# Altium integrated library CDE_Library.IntLib: 6171 symbols (part 6 of 25)
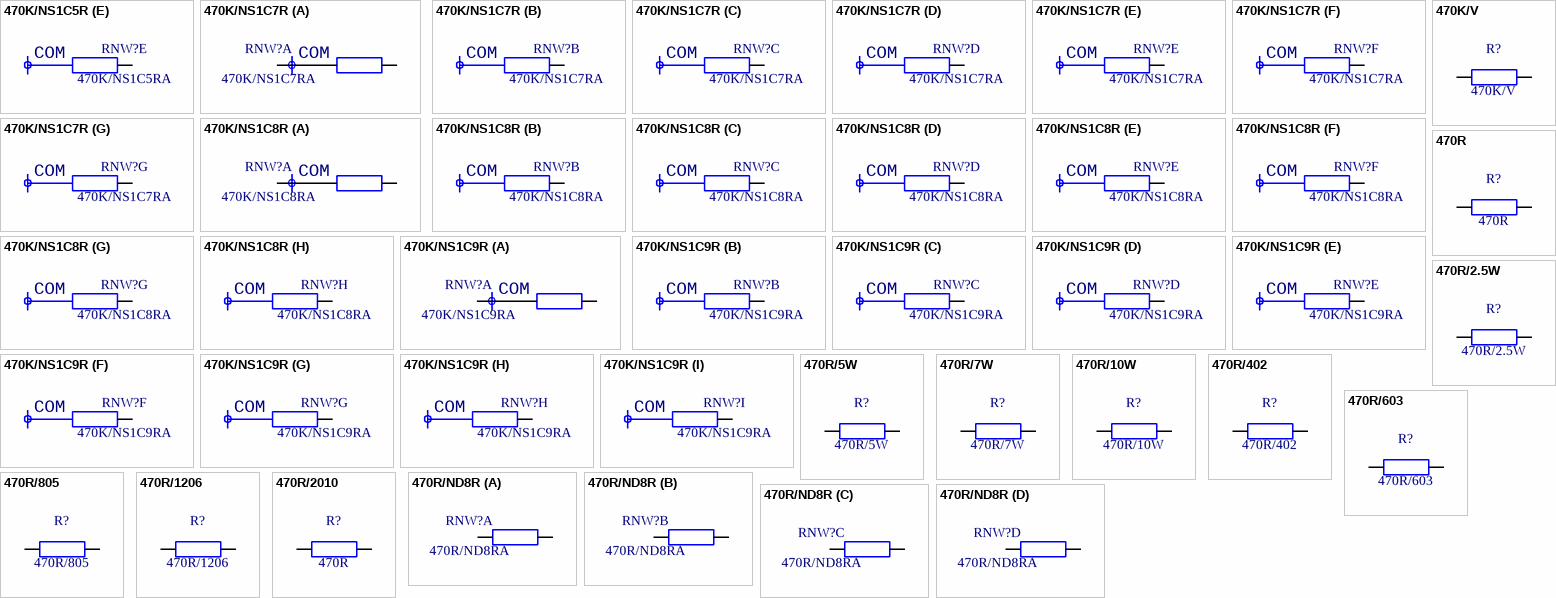
[diagram p262: symbols 470K/NS1C5R to 470R/ND8R]

## 470K/NS1C9R
designator RNW?, comment 470K/NS1C9RA
weerstandsnetwerk, SIL, 1 gemeens.pin, 9 weerst., 470K
footprint ws netwerk 9xR 1C (SIL)
part A pins: 1, 2
part B pins: 3
part C pins: 4
part D pins: 5
part E pins: 6
part F pins: 7
part G pins: 8
part H pins: 9
part I pins: 10
part A text: COM
part B text: COM
part C text: COM
part D text: COM
part E text: COM
part F text: COM
part G text: COM
part H text: COM
part I text: COM

## 470K/V
designator R?
weerstand 470K 0.6W, vertikaal
footprint ws 0.6W V
pins: 1, 2

## 470R
designator R?
weerstand 470R 0.6W
footprint ws 0.6W H
pins: 1, 2

## 470R/2.5W
designator R?
weerstand 470R 2.5W
footprint ws 2.5W H
pins: 1, 2

## 470R/5W
designator R?
weerstand 470R 5W
footprint ws 5W H
pins: 1, 2

## 470R/7W
designator R?
weerstand 470R 7W
footprint ws 7W H
pins: 1, 2

## 470R/10W
designator R?
weerstand 470R 10W
footprint ws 10W H
pins: 1, 2

## 470R/402
designator R?
weerstand SMD402, 470R
footprint smd C0402_0.35
pins: 1, 2

## 470R/603
designator R?
weerstand SMD603, 470R
footprint smd C0603_0.45
pins: 1, 2

## 470R/805
designator R?
weerstand SMD805, 470R
footprint smd C0805_0.50
pins: 1, 2

## 470R/1206
designator R?
weerstand SMD1206, 470R
footprint smd C1206_0.55
pins: 1, 2

## 470R/2010
designator R?, comment 470R
weerstand 470R 0.6W
footprint smd 2010 (5025) (Chip Resistor; Body 5.0 x 2.5 mm (LxW typ))
pins: 1, 2

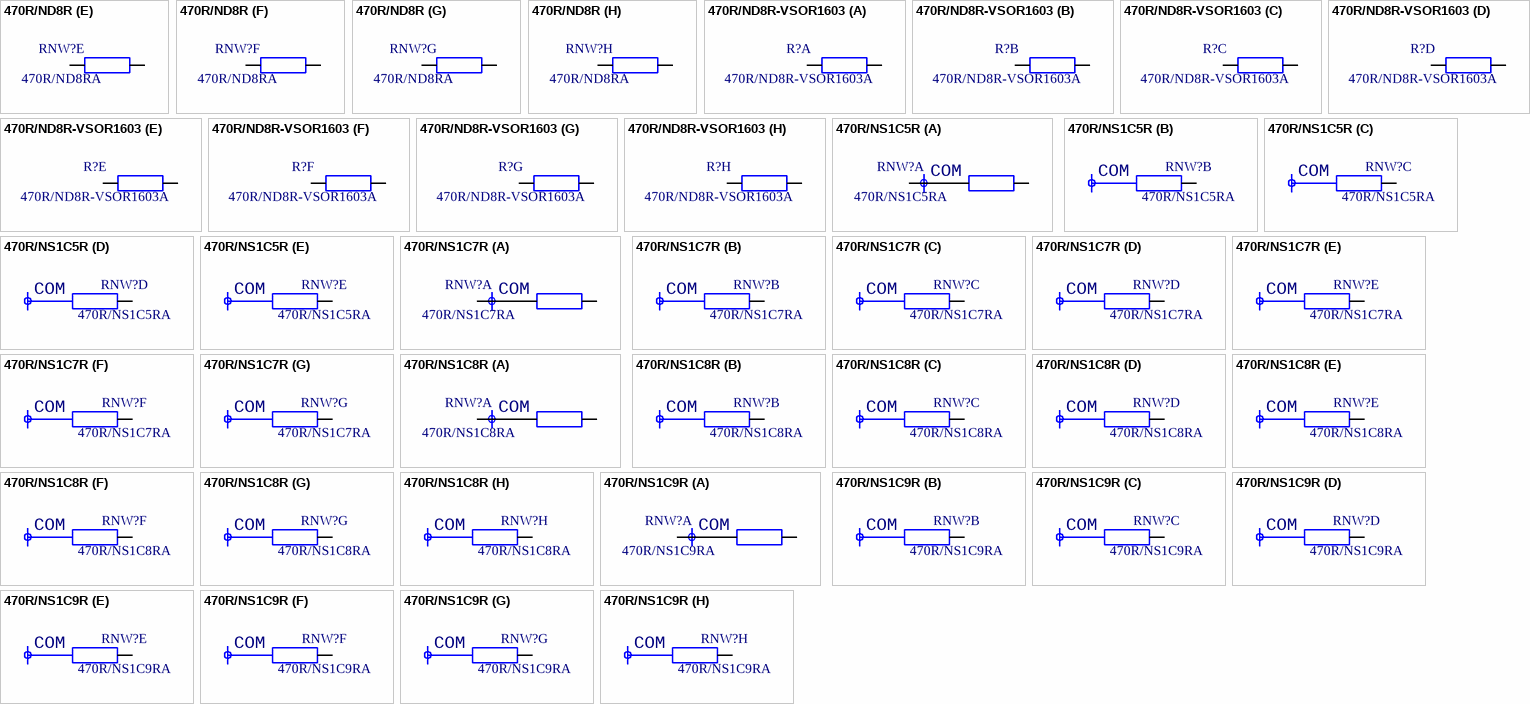
[diagram p89: symbols 470R/ND8R to 470R/NS1C9R]

## 470R/ND8R
designator RNW?, comment 470R/ND8RA
weerstandsnetwerk, DIL, 8 x 470R
footprint icv DIP16-300
part A pins: 1, 16
part B pins: 2, 15
part C pins: 3, 14
part D pins: 4, 13
part E pins: 5, 12
part F pins: 6, 11
part G pins: 7, 10
part H pins: 8, 9

## 470R/ND8R-VSOR1603
designator R?, comment 470R/ND8R-VSOR1603A
weerstandsnetwerk, DIL, smd, Vishay VSOR1603, 8 x 470R
footprint smd SOICN/16
part A pins: 1, 16
part B pins: 2, 15
part C pins: 3, 14
part D pins: 4, 13
part E pins: 5, 12
part F pins: 6, 11
part G pins: 7, 10
part H pins: 8, 9

## 470R/NS1C5R
designator RNW?, comment 470R/NS1C5RA
weerstandsnetwerk, SIL, 1 gemeens.pin, 5 weerst., 470R
footprint ws netwerk 5xR 1C (SIL)
part A pins: 1, 2
part B pins: 3
part C pins: 4
part D pins: 5
part E pins: 6
part A text: COM
part B text: COM
part C text: COM
part D text: COM
part E text: COM

## 470R/NS1C7R
designator RNW?, comment 470R/NS1C7RA
weerstandsnetwerk, SIL, 1 gemeens.pin, 7 weerst., 470R
footprint ws netwerk 7xR 1C (SIL)
part A pins: 1, 2
part B pins: 3
part C pins: 4
part D pins: 5
part E pins: 6
part F pins: 7
part G pins: 8
part A text: COM
part B text: COM
part C text: COM
part D text: COM
part E text: COM
part F text: COM
part G text: COM

## 470R/NS1C8R
designator RNW?, comment 470R/NS1C8RA
weerstandsnetwerk, SIL, 1 gemeens.pin, 8 weerst., 470R
footprint ws netwerk 8xR 1C (SIL)
part A pins: 1, 2
part B pins: 3
part C pins: 4
part D pins: 5
part E pins: 6
part F pins: 7
part G pins: 8
part H pins: 9
part A text: COM
part B text: COM
part C text: COM
part D text: COM
part E text: COM
part F text: COM
part G text: COM
part H text: COM

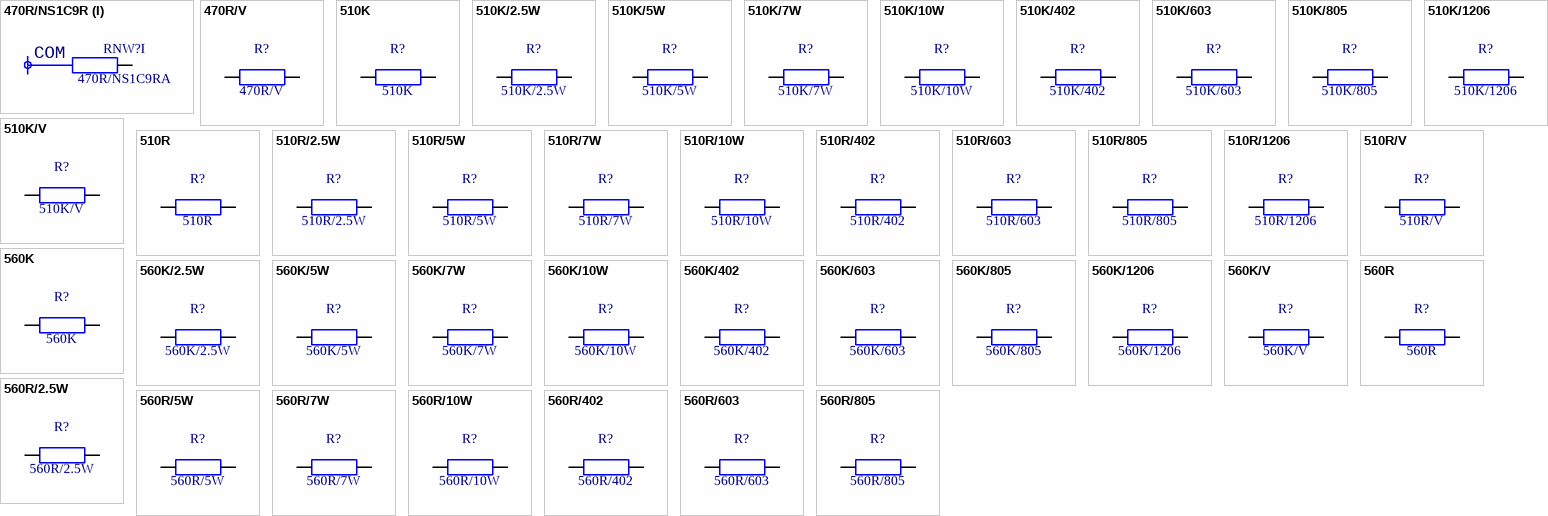
[diagram p90: symbols 470R/NS1C9R to 560R/805]

## 470R/NS1C9R
designator RNW?, comment 470R/NS1C9RA
weerstandsnetwerk, SIL, 1 gemeens.pin, 9 weerst., 470R
footprint ws netwerk 9xR 1C (SIL)
part A pins: 1, 2
part B pins: 3
part C pins: 4
part D pins: 5
part E pins: 6
part F pins: 7
part G pins: 8
part H pins: 9
part I pins: 10
part A text: COM
part B text: COM
part C text: COM
part D text: COM
part E text: COM
part F text: COM
part G text: COM
part H text: COM
part I text: COM

## 470R/V
designator R?
weerstand 470R 0.6W, vertikaal
footprint ws 0.6W V
pins: 1, 2

## 510K
designator R?
weerstand 510K 0.6W
footprint ws 0.6W H
pins: 1, 2

## 510K/2.5W
designator R?
weerstand 510K 2.5W
footprint ws 2.5W H
pins: 1, 2

## 510K/5W
designator R?
weerstand 510K 5W
footprint ws 5W H
pins: 1, 2

## 510K/7W
designator R?
weerstand 510K 7W
footprint ws 7W H
pins: 1, 2

## 510K/10W
designator R?
weerstand 510K 10W
footprint ws 10W H
pins: 1, 2

## 510K/402
designator R?
weerstand SMD402, 510K
footprint smd C0402_0.35
pins: 1, 2

## 510K/603
designator R?
weerstand SMD603, 510K
footprint smd C0603_0.45
pins: 1, 2

## 510K/805
designator R?
weerstand SMD805, 510K
footprint smd C0805_0.50
pins: 1, 2

## 510K/1206
designator R?
weerstand SMD1206, 510K
footprint smd C1206_0.55
pins: 1, 2

## 510K/V
designator R?
weerstand 510K 0.6W, vertikaal
footprint ws 0.6W V
pins: 1, 2

## 510R
designator R?
weerstand 510R 0.6W
footprint ws 0.6W H
pins: 1, 2

## 510R/2.5W
designator R?
weerstand 510R 2.5W
footprint ws 2.5W H
pins: 1, 2

## 510R/5W
designator R?
weerstand 510R 5W
footprint ws 5W H
pins: 1, 2

## 510R/7W
designator R?
weerstand 510R 7W
footprint ws 7W H
pins: 1, 2

## 510R/10W
designator R?
weerstand 510R 10W
footprint ws 10W H
pins: 1, 2

## 510R/402
designator R?
weerstand SMD402, 510R
footprint smd C0402_0.35
pins: 1, 2

## 510R/603
designator R?
weerstand SMD603, 510R
footprint smd C0603_0.45
pins: 1, 2

## 510R/805
designator R?
weerstand SMD805, 510R
footprint smd C0805_0.50
pins: 1, 2

## 510R/1206
designator R?
weerstand SMD1206, 510R
footprint smd C1206_0.55
pins: 1, 2

## 510R/V
designator R?
weerstand 510R 0.6W, vertikaal
footprint ws 0.6W V
pins: 1, 2

## 560K
designator R?
weerstand 560K 0.6W
footprint ws 0.6W H
pins: 1, 2

## 560K/2.5W
designator R?
weerstand 560K 2.5W
footprint ws 2.5W H
pins: 1, 2

## 560K/5W
designator R?
weerstand 560K 5W
footprint ws 5W H
pins: 1, 2

## 560K/7W
designator R?
weerstand 560K 7W
footprint ws 7W H
pins: 1, 2

## 560K/10W
designator R?
weerstand 560K 10W
footprint ws 10W H
pins: 1, 2

## 560K/402
designator R?
weerstand SMD402, 560K
footprint smd C0402_0.35
pins: 1, 2

## 560K/603
designator R?
weerstand SMD603, 560K
footprint smd C0603_0.45
pins: 1, 2

## 560K/805
designator R?
weerstand SMD805, 560K
footprint smd C0805_0.50
pins: 1, 2

## 560K/1206
designator R?
weerstand SMD1206, 560K
footprint smd C1206_0.55
pins: 1, 2

## 560K/V
designator R?
weerstand 560K 0.6W, vertikaal
footprint ws 0.6W V
pins: 1, 2

## 560R
designator R?
weerstand 560R 0.6W
footprint ws 0.6W H
pins: 1, 2

## 560R/2.5W
designator R?
weerstand 560R 2.5W
footprint ws 2.5W H
pins: 1, 2

## 560R/5W
designator R?
weerstand 560R 5W
footprint ws 5W H
pins: 1, 2

## 560R/7W
designator R?
weerstand 560R 7W
footprint ws 7W H
pins: 1, 2

## 560R/10W
designator R?
weerstand 560R 10W
footprint ws 10W H
pins: 1, 2

## 560R/402
designator R?
weerstand SMD402, 560R
footprint smd C0402_0.35
pins: 1, 2

## 560R/603
designator R?
weerstand SMD603, 560R
footprint smd C0603_0.45
pins: 1, 2

## 560R/805
designator R?
weerstand SMD805, 560R
footprint smd C0805_0.50
pins: 1, 2

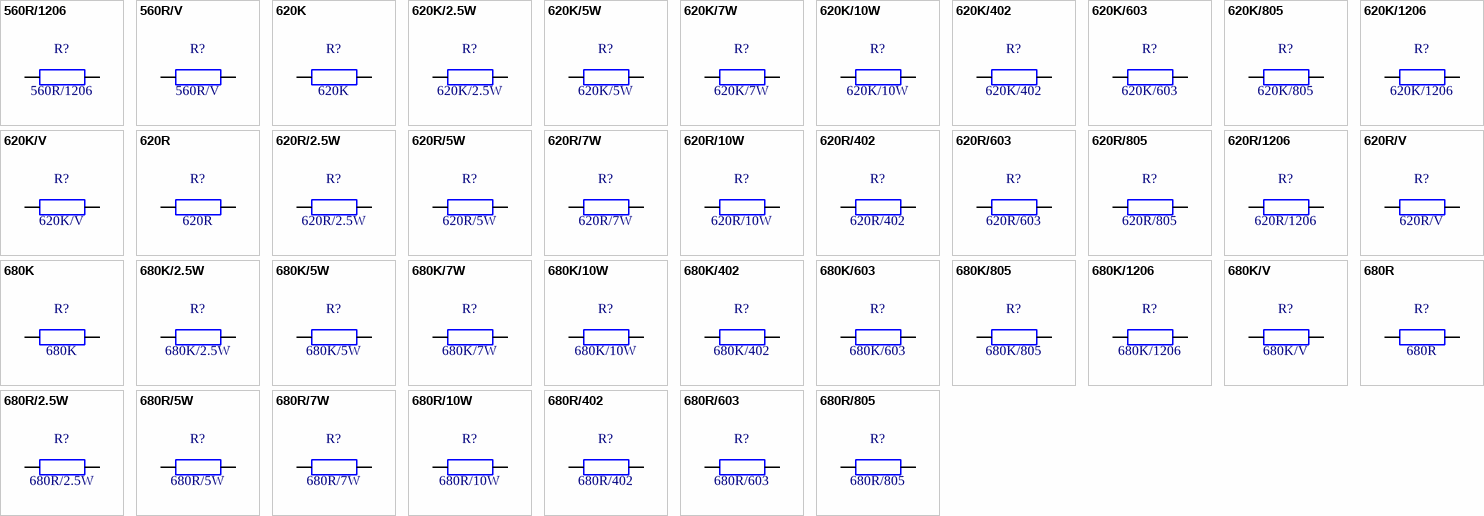
[diagram p91: symbols 560R/1206 to 680R/805]

## 560R/1206
designator R?
weerstand SMD1206, 560R
footprint smd C1206_0.55
pins: 1, 2

## 560R/V
designator R?
weerstand 560R 0.6W, vertikaal
footprint ws 0.6W V
pins: 1, 2

## 620K
designator R?
weerstand 620K 0.6W
footprint ws 0.6W H
pins: 1, 2

## 620K/2.5W
designator R?
weerstand 620K 2.5W
footprint ws 2.5W H
pins: 1, 2

## 620K/5W
designator R?
weerstand 620K 5W
footprint ws 5W H
pins: 1, 2

## 620K/7W
designator R?
weerstand 620K 7W
footprint ws 7W H
pins: 1, 2

## 620K/10W
designator R?
weerstand 620K 10W
footprint ws 10W H
pins: 1, 2

## 620K/402
designator R?
weerstand SMD402, 620K
footprint smd C0402_0.35
pins: 1, 2

## 620K/603
designator R?
weerstand SMD603, 620K
footprint smd C0603_0.45
pins: 1, 2

## 620K/805
designator R?
weerstand SMD805, 620K
footprint smd C0805_0.50
pins: 1, 2

## 620K/1206
designator R?
weerstand SMD1206, 620K
footprint smd C1206_0.55
pins: 1, 2

## 620K/V
designator R?
weerstand 620K 0.6W, vertikaal
footprint ws 0.6W V
pins: 1, 2

## 620R
designator R?
weerstand 620R 0.6W
footprint ws 0.6W H
pins: 1, 2

## 620R/2.5W
designator R?
weerstand 620R 2.5W
footprint ws 2.5W H
pins: 1, 2

## 620R/5W
designator R?
weerstand 620R 5W
footprint ws 5W H
pins: 1, 2

## 620R/7W
designator R?
weerstand 620R 7W
footprint ws 7W H
pins: 1, 2

## 620R/10W
designator R?
weerstand 620R 10W
footprint ws 10W H
pins: 1, 2

## 620R/402
designator R?
weerstand SMD402, 620R
footprint smd C0402_0.35
pins: 1, 2

## 620R/603
designator R?
weerstand SMD603, 620R
footprint smd C0603_0.45
pins: 1, 2

## 620R/805
designator R?
weerstand SMD805, 620R
footprint smd C0805_0.50
pins: 1, 2

## 620R/1206
designator R?
weerstand SMD1206, 620R
footprint smd C1206_0.55
pins: 1, 2

## 620R/V
designator R?
weerstand 620R 0.6W, vertikaal
footprint ws 0.6W V
pins: 1, 2

## 680K
designator R?
weerstand 680K 0.6W
footprint ws 0.6W H
pins: 1, 2

## 680K/2.5W
designator R?
weerstand 680K 2.5W
footprint ws 2.5W H
pins: 1, 2

## 680K/5W
designator R?
weerstand 680K 5W
footprint ws 5W H
pins: 1, 2

## 680K/7W
designator R?
weerstand 680K 7W
footprint ws 7W H
pins: 1, 2

## 680K/10W
designator R?
weerstand 680K 10W
footprint ws 10W H
pins: 1, 2

## 680K/402
designator R?
weerstand SMD402, 680K
footprint smd C0402_0.35
pins: 1, 2

## 680K/603
designator R?
weerstand SMD603, 680K
footprint smd C0603_0.45
pins: 1, 2

## 680K/805
designator R?
weerstand SMD805, 680K
footprint smd C0805_0.50
pins: 1, 2

## 680K/1206
designator R?
weerstand SMD1206, 680K
footprint smd C1206_0.55
pins: 1, 2

## 680K/V
designator R?
weerstand 680K 0.6W, vertikaal
footprint ws 0.6W V
pins: 1, 2

## 680R
designator R?
weerstand 680R 0.6W
footprint ws 0.6W H
pins: 1, 2

## 680R/2.5W
designator R?
weerstand 680R 2.5W
footprint ws 2.5W H
pins: 1, 2

## 680R/5W
designator R?
weerstand 680R 5W
footprint ws 5W H
pins: 1, 2

## 680R/7W
designator R?
weerstand 680R 7W
footprint ws 7W H
pins: 1, 2

## 680R/10W
designator R?
weerstand 680R 10W
footprint ws 10W H
pins: 1, 2

## 680R/402
designator R?
weerstand SMD402, 680R
footprint smd C0402_0.35
pins: 1, 2

## 680R/603
designator R?
weerstand SMD603, 680R
footprint smd C0603_0.45
pins: 1, 2

## 680R/805
designator R?
weerstand SMD805, 680R
footprint smd C0805_0.50
pins: 1, 2

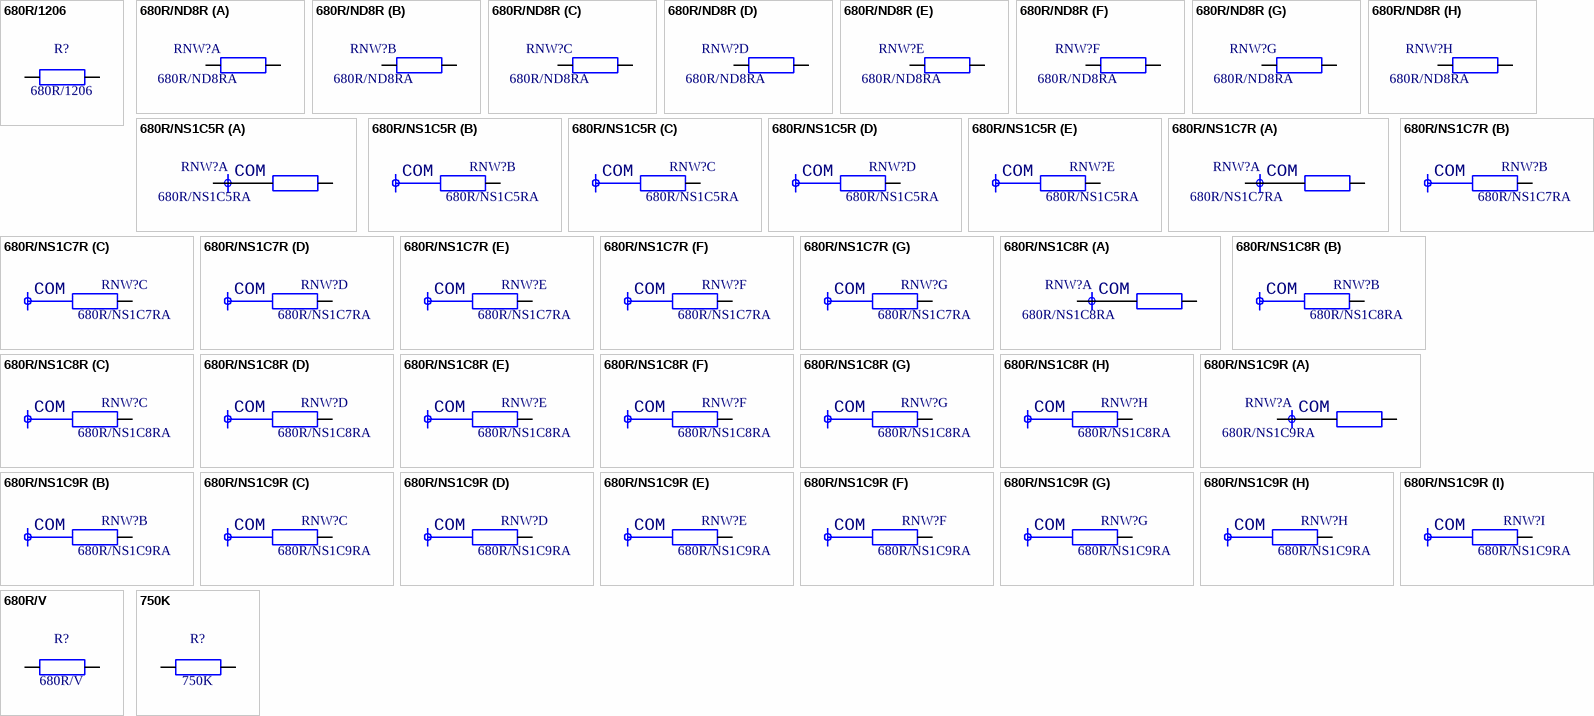
[diagram p92: symbols 680R/1206 to 750K]

## 680R/1206
designator R?
weerstand SMD1206, 680R
footprint smd C1206_0.55
pins: 1, 2

## 680R/ND8R
designator RNW?, comment 680R/ND8RA
weerstandsnetwerk, DIL, 8 x 680R
footprint icv DIP16-300
part A pins: 1, 16
part B pins: 2, 15
part C pins: 3, 14
part D pins: 4, 13
part E pins: 5, 12
part F pins: 6, 11
part G pins: 7, 10
part H pins: 8, 9

## 680R/NS1C5R
designator RNW?, comment 680R/NS1C5RA
weerstandsnetwerk, SIL, 1 gemeens.pin, 5 weerst., 680R
footprint ws netwerk 5xR 1C (SIL)
part A pins: 1, 2
part B pins: 3
part C pins: 4
part D pins: 5
part E pins: 6
part A text: COM
part B text: COM
part C text: COM
part D text: COM
part E text: COM

## 680R/NS1C7R
designator RNW?, comment 680R/NS1C7RA
weerstandsnetwerk, SIL, 1 gemeens.pin, 7 weerst., 680R
footprint ws netwerk 7xR 1C (SIL)
part A pins: 1, 2
part B pins: 3
part C pins: 4
part D pins: 5
part E pins: 6
part F pins: 7
part G pins: 8
part A text: COM
part B text: COM
part C text: COM
part D text: COM
part E text: COM
part F text: COM
part G text: COM

## 680R/NS1C8R
designator RNW?, comment 680R/NS1C8RA
weerstandsnetwerk, SIL, 1 gemeens.pin, 8 weerst., 680R
footprint ws netwerk 8xR 1C (SIL)
part A pins: 1, 2
part B pins: 3
part C pins: 4
part D pins: 5
part E pins: 6
part F pins: 7
part G pins: 8
part H pins: 9
part A text: COM
part B text: COM
part C text: COM
part D text: COM
part E text: COM
part F text: COM
part G text: COM
part H text: COM

## 680R/NS1C9R
designator RNW?, comment 680R/NS1C9RA
weerstandsnetwerk, SIL, 1 gemeens.pin, 9 weerst., 680R
footprint ws netwerk 9xR 1C (SIL)
part A pins: 1, 2
part B pins: 3
part C pins: 4
part D pins: 5
part E pins: 6
part F pins: 7
part G pins: 8
part H pins: 9
part I pins: 10
part A text: COM
part B text: COM
part C text: COM
part D text: COM
part E text: COM
part F text: COM
part G text: COM
part H text: COM
part I text: COM

## 680R/V
designator R?
weerstand 680R 0.6W, vertikaal
footprint ws 0.6W V
pins: 1, 2

## 750K
designator R?
weerstand 750K 0.6W
footprint ws 0.6W H
pins: 1, 2

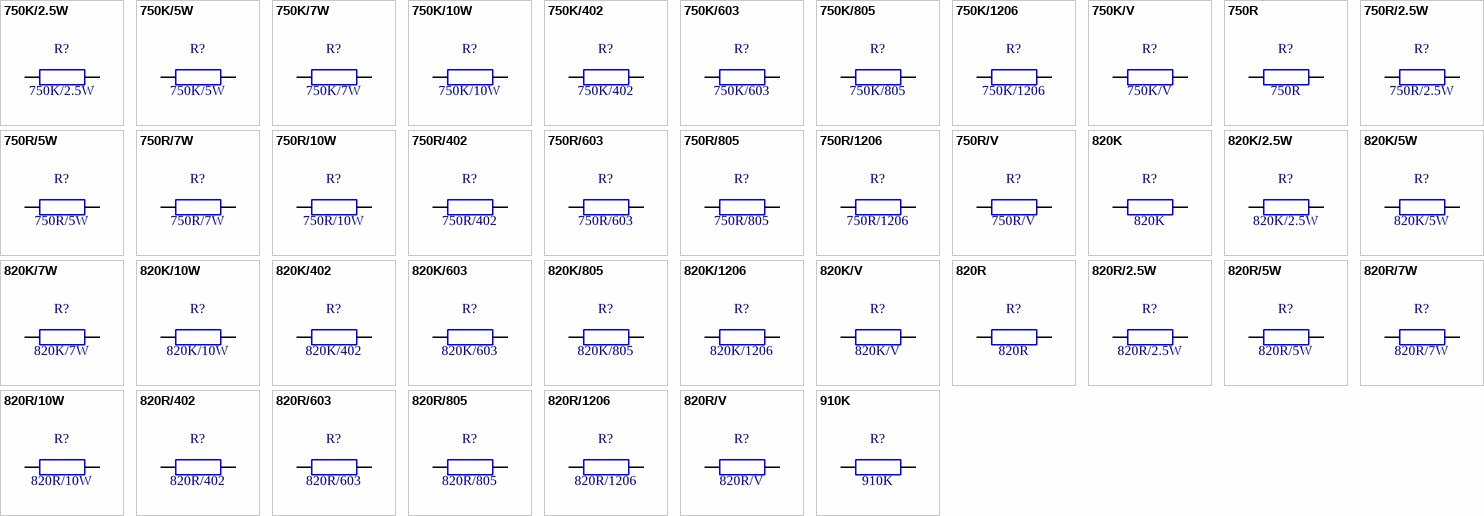
[diagram p93: symbols 750K/2.5W to 910K]

## 750K/2.5W
designator R?
weerstand 750K 2.5W
footprint ws 2.5W H
pins: 1, 2

## 750K/5W
designator R?
weerstand 750K 5W
footprint ws 5W H
pins: 1, 2

## 750K/7W
designator R?
weerstand 750K 7W
footprint ws 7W H
pins: 1, 2

## 750K/10W
designator R?
weerstand 750K 10W
footprint ws 10W H
pins: 1, 2

## 750K/402
designator R?
weerstand SMD402, 750K
footprint smd C0402_0.35
pins: 1, 2

## 750K/603
designator R?
weerstand SMD603, 750K
footprint smd C0603_0.45
pins: 1, 2

## 750K/805
designator R?
weerstand SMD805, 750K
footprint smd C0805_0.50
pins: 1, 2

## 750K/1206
designator R?
weerstand SMD1206, 750K
footprint smd C1206_0.55
pins: 1, 2

## 750K/V
designator R?
weerstand 750K 0.6W, vertikaal
footprint ws 0.6W V
pins: 1, 2

## 750R
designator R?
weerstand 750R 0.6W
footprint ws 0.6W H
pins: 1, 2

## 750R/2.5W
designator R?
weerstand 750R 2.5W
footprint ws 2.5W H
pins: 1, 2

## 750R/5W
designator R?
weerstand 750R 5W
footprint ws 5W H
pins: 1, 2

## 750R/7W
designator R?
weerstand 750R 7W
footprint ws 7W H
pins: 1, 2

## 750R/10W
designator R?
weerstand 750R 10W
footprint ws 10W H
pins: 1, 2

## 750R/402
designator R?
weerstand SMD402, 750R
footprint smd C0402_0.35
pins: 1, 2

## 750R/603
designator R?
weerstand SMD603, 750R
footprint smd C0603_0.45
pins: 1, 2

## 750R/805
designator R?
weerstand SMD805, 750R
footprint smd C0805_0.50
pins: 1, 2

## 750R/1206
designator R?
weerstand SMD1206, 750R
footprint smd C1206_0.55
pins: 1, 2

## 750R/V
designator R?
weerstand 750R 0.6W, vertikaal
footprint ws 0.6W V
pins: 1, 2

## 820K
designator R?
weerstand 820K 0.6W
footprint ws 0.6W H
pins: 1, 2

## 820K/2.5W
designator R?
weerstand 820K 2.5W
footprint ws 2.5W H
pins: 1, 2

## 820K/5W
designator R?
weerstand 820K 5W
footprint ws 5W H
pins: 1, 2

## 820K/7W
designator R?
weerstand 820K 7W
footprint ws 7W H
pins: 1, 2

## 820K/10W
designator R?
weerstand 820K 10W
footprint ws 10W H
pins: 1, 2

## 820K/402
designator R?
weerstand SMD402, 820K
footprint smd C0402_0.35
pins: 1, 2

## 820K/603
designator R?
weerstand SMD603, 820K
footprint smd C0603_0.45
pins: 1, 2

## 820K/805
designator R?
weerstand SMD805, 820K
footprint smd C0805_0.50
pins: 1, 2

## 820K/1206
designator R?
weerstand SMD1206, 820K
footprint smd C1206_0.55
pins: 1, 2

## 820K/V
designator R?
weerstand 820K 0.6W, vertikaal
footprint ws 0.6W V
pins: 1, 2

## 820R
designator R?
weerstand 820R 0.6W
footprint ws 0.6W H
pins: 1, 2

## 820R/2.5W
designator R?
weerstand 820R 2.5W
footprint ws 2.5W H
pins: 1, 2

## 820R/5W
designator R?
weerstand 820R 5W
footprint ws 5W H
pins: 1, 2

## 820R/7W
designator R?
weerstand 820R 7W
footprint ws 7W H
pins: 1, 2

## 820R/10W
designator R?
weerstand 820R 10W
footprint ws 10W H
pins: 1, 2

## 820R/402
designator R?
weerstand SMD402, 820R
footprint smd C0402_0.35
pins: 1, 2

## 820R/603
designator R?
weerstand SMD603, 820R
footprint smd C0603_0.45
pins: 1, 2

## 820R/805
designator R?
weerstand SMD805, 820R
footprint smd C0805_0.50
pins: 1, 2

## 820R/1206
designator R?
weerstand SMD1206, 820R
footprint smd C1206_0.55
pins: 1, 2

## 820R/V
designator R?
weerstand 820R 0.6W, vertikaal
footprint ws 0.6W V
pins: 1, 2

## 910K
designator R?
weerstand 910K 0.6W
footprint ws 0.6W H
pins: 1, 2

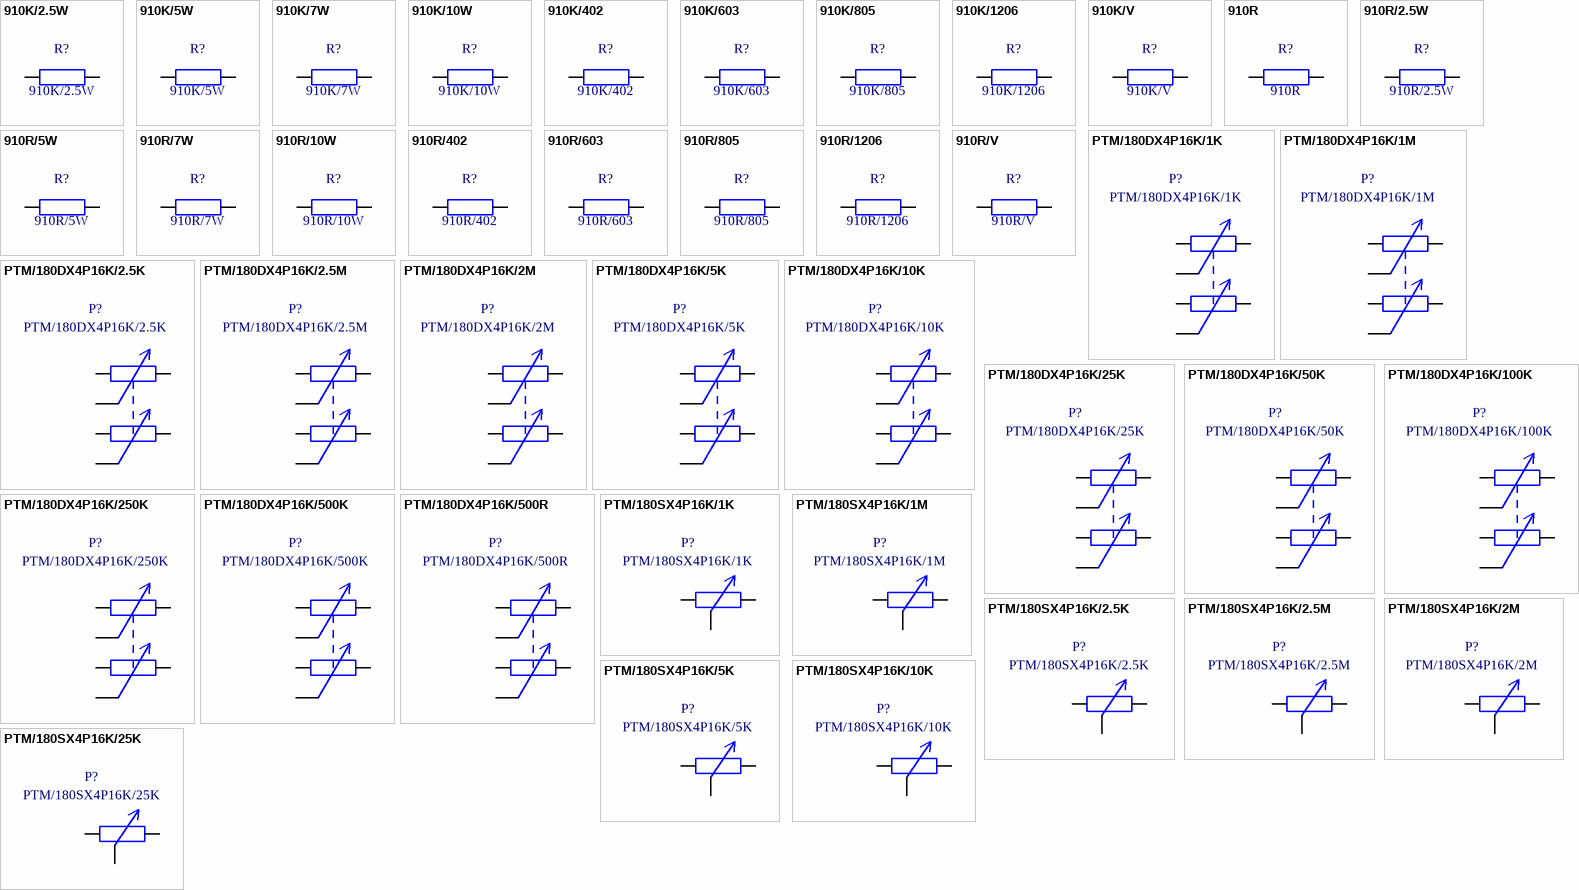
[diagram p94: symbols 910K/2.5W to PTM/180SX4P16K/25K]

## 910K/2.5W
designator R?
weerstand 910K 2.5W
footprint ws 2.5W H
pins: 1, 2

## 910K/5W
designator R?
weerstand 910K 5W
footprint ws 5W H
pins: 1, 2

## 910K/7W
designator R?
weerstand 910K 7W
footprint ws 7W H
pins: 1, 2

## 910K/10W
designator R?
weerstand 910K 10W
footprint ws 10W H
pins: 1, 2

## 910K/402
designator R?
weerstand SMD402, 910K
footprint smd C0402_0.35
pins: 1, 2

## 910K/603
designator R?
weerstand SMD603, 910K
footprint smd C0603_0.45
pins: 1, 2

## 910K/805
designator R?
weerstand SMD805, 910K
footprint smd C0805_0.50
pins: 1, 2

## 910K/1206
designator R?
weerstand SMD1206, 910K
footprint smd C1206_0.55
pins: 1, 2

## 910K/V
designator R?
weerstand 910K 0.6W, vertikaal
footprint ws 0.6W V
pins: 1, 2

## 910R
designator R?
weerstand 910R 0.6W
footprint ws 0.6W H
pins: 1, 2

## 910R/2.5W
designator R?
weerstand 910R 2.5W
footprint ws 2.5W H
pins: 1, 2

## 910R/5W
designator R?
weerstand 910R 5W
footprint ws 5W H
pins: 1, 2

## 910R/7W
designator R?
weerstand 910R 7W
footprint ws 7W H
pins: 1, 2

## 910R/10W
designator R?
weerstand 910R 10W
footprint ws 10W H
pins: 1, 2

## 910R/402
designator R?
weerstand SMD402, 910R
footprint smd C0402_0.35
pins: 1, 2

## 910R/603
designator R?
weerstand SMD603, 910R
footprint smd C0603_0.45
pins: 1, 2

## 910R/805
designator R?
weerstand SMD805, 910R
footprint smd C0805_0.50
pins: 1, 2

## 910R/1206
designator R?
weerstand SMD1206, 910R
footprint smd C1206_0.55
pins: 1, 2

## 910R/V
designator R?
weerstand 910R 0.6W, vertikaal
footprint ws 0.6W V
pins: 1, 2

## PTM/180DX4P16K/1K
designator P?
stereopotentiometer, Vishay-Spectrol 180DX4P16K
footprint potmeter hor (VISH-SPEC 180DX4P16K)
pins: 1, 2, 3, 4, 5, 6

## PTM/180DX4P16K/1M
designator P?
stereopotentiometer, Vishay-Spectrol 180DX4P16K
footprint potmeter hor (VISH-SPEC 180DX4P16K)
pins: 1, 2, 3, 4, 5, 6

## PTM/180DX4P16K/2.5K
designator P?
stereopotentiometer, Vishay-Spectrol 180DX4P16K
footprint potmeter hor (VISH-SPEC 180DX4P16K)
pins: 1, 2, 3, 4, 5, 6

## PTM/180DX4P16K/2.5M
designator P?
stereopotentiometer, Vishay-Spectrol 180DX4P16K
footprint potmeter hor (VISH-SPEC 180DX4P16K)
pins: 1, 2, 3, 4, 5, 6

## PTM/180DX4P16K/2M
designator P?
stereopotentiometer, Vishay-Spectrol 180DX4P16K
footprint potmeter hor (VISH-SPEC 180DX4P16K)
pins: 1, 2, 3, 4, 5, 6

## PTM/180DX4P16K/5K
designator P?
stereopotentiometer, Vishay-Spectrol 180DX4P16K
footprint potmeter hor (VISH-SPEC 180DX4P16K)
pins: 1, 2, 3, 4, 5, 6

## PTM/180DX4P16K/10K
designator P?
stereopotentiometer, Vishay-Spectrol 180DX4P16K
footprint potmeter hor (VISH-SPEC 180DX4P16K)
pins: 1, 2, 3, 4, 5, 6

## PTM/180DX4P16K/25K
designator P?
stereopotentiometer, Vishay-Spectrol 180DX4P16K
footprint potmeter hor (VISH-SPEC 180DX4P16K)
pins: 1, 2, 3, 4, 5, 6

## PTM/180DX4P16K/50K
designator P?
stereopotentiometer, Vishay-Spectrol 180DX4P16K
footprint potmeter hor (VISH-SPEC 180DX4P16K)
pins: 1, 2, 3, 4, 5, 6

## PTM/180DX4P16K/100K
designator P?
stereopotentiometer, Vishay-Spectrol 180DX4P16K
footprint potmeter hor (VISH-SPEC 180DX4P16K)
pins: 1, 2, 3, 4, 5, 6

## PTM/180DX4P16K/250K
designator P?
stereopotentiometer, Vishay-Spectrol 180DX4P16K
footprint potmeter hor (VISH-SPEC 180DX4P16K)
pins: 1, 2, 3, 4, 5, 6

## PTM/180DX4P16K/500K
designator P?
stereopotentiometer, Vishay-Spectrol 180DX4P16K
footprint potmeter hor (VISH-SPEC 180DX4P16K)
pins: 1, 2, 3, 4, 5, 6

## PTM/180DX4P16K/500R
designator P?
stereopotentiometer, Vishay-Spectrol 180DX4P16K
footprint potmeter hor (VISH-SPEC 180DX4P16K)
pins: 1, 2, 3, 4, 5, 6

## PTM/180SX4P16K/1K
designator P?
potentiometer, Vishay-Spectrol 180SX4P16K
footprint potmeter hor (VISH-SPEC 180SX4P16K)
pins: 1, 2, 3

## PTM/180SX4P16K/1M
designator P?
potentiometer, Vishay-Spectrol 180SX4P16K
footprint potmeter hor (VISH-SPEC 180SX4P16K)
pins: 1, 2, 3

## PTM/180SX4P16K/2.5K
designator P?
potentiometer, Vishay-Spectrol 180SX4P16K
footprint potmeter hor (VISH-SPEC 180SX4P16K)
pins: 1, 2, 3

## PTM/180SX4P16K/2.5M
designator P?
potentiometer, Vishay-Spectrol 180SX4P16K
footprint potmeter hor (VISH-SPEC 180SX4P16K)
pins: 1, 2, 3

## PTM/180SX4P16K/2M
designator P?
potentiometer, Vishay-Spectrol 180SX4P16K
footprint potmeter hor (VISH-SPEC 180SX4P16K)
pins: 1, 2, 3

## PTM/180SX4P16K/5K
designator P?
potentiometer, Vishay-Spectrol 180SX4P16K
footprint potmeter hor (VISH-SPEC 180SX4P16K)
pins: 1, 2, 3

## PTM/180SX4P16K/10K
designator P?
potentiometer, Vishay-Spectrol 180SX4P16K
footprint potmeter hor (VISH-SPEC 180SX4P16K)
pins: 1, 2, 3

## PTM/180SX4P16K/25K
designator P?
potentiometer, Vishay-Spectrol 180SX4P16K
footprint potmeter hor (VISH-SPEC 180SX4P16K)
pins: 1, 2, 3

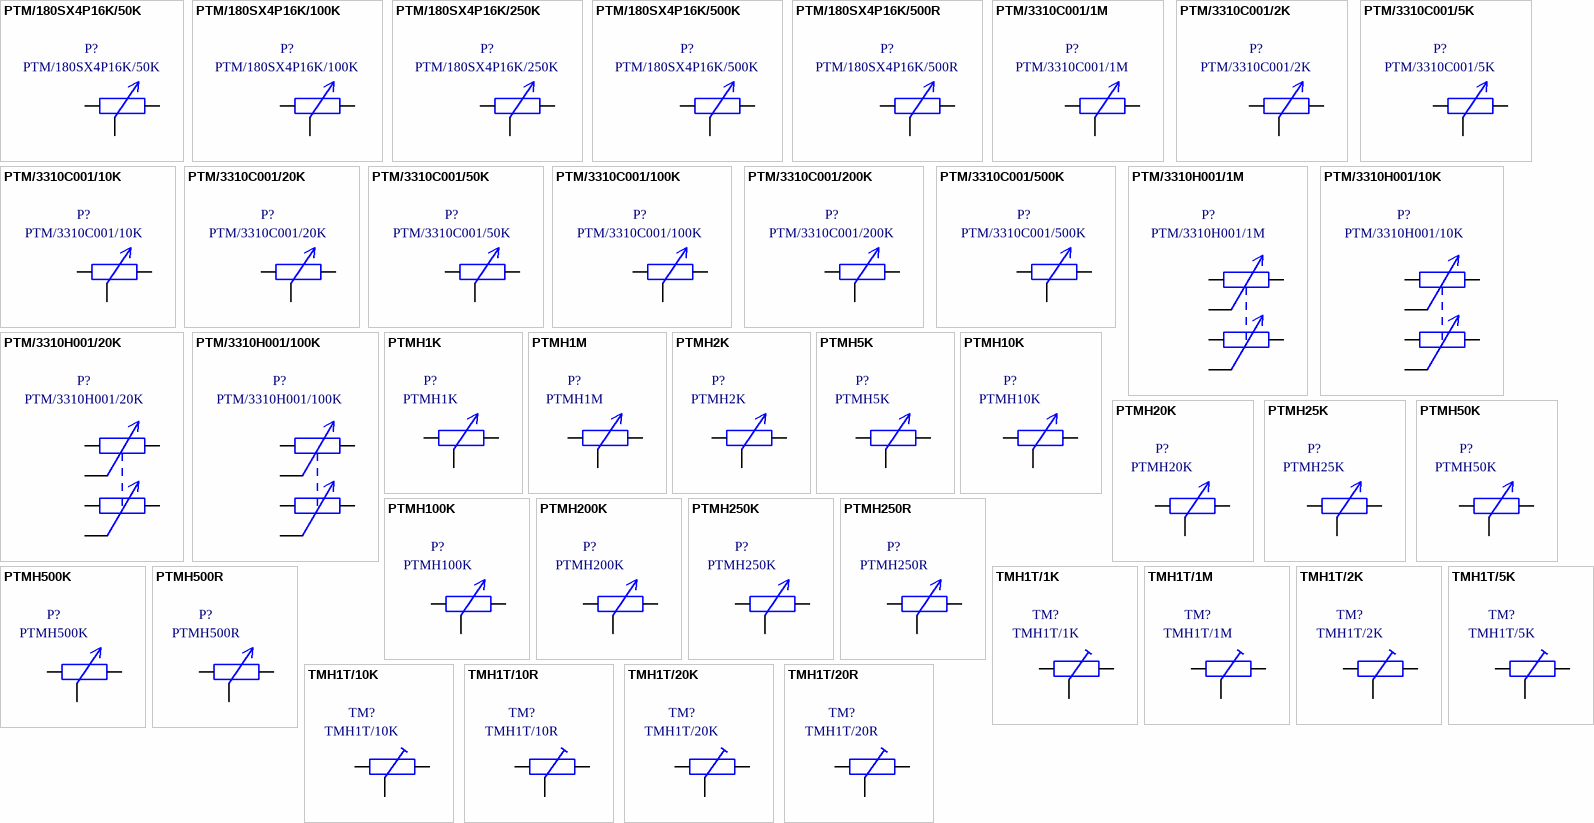
[diagram p95: symbols PTM/180SX4P16K/50K to TMH1T/20R]

## PTM/180SX4P16K/50K
designator P?
potentiometer, Vishay-Spectrol 180SX4P16K
footprint potmeter hor (VISH-SPEC 180SX4P16K)
pins: 1, 2, 3

## PTM/180SX4P16K/100K
designator P?
potentiometer, Vishay-Spectrol 180SX4P16K
footprint potmeter hor (VISH-SPEC 180SX4P16K)
pins: 1, 2, 3

## PTM/180SX4P16K/250K
designator P?
potentiometer, Vishay-Spectrol 180SX4P16K
footprint potmeter hor (VISH-SPEC 180SX4P16K)
pins: 1, 2, 3

## PTM/180SX4P16K/500K
designator P?
potentiometer, Vishay-Spectrol 180SX4P16K
footprint potmeter hor (VISH-SPEC 180SX4P16K)
pins: 1, 2, 3

## PTM/180SX4P16K/500R
designator P?
potentiometer, Vishay-Spectrol 180SX4P16K
footprint potmeter hor (VISH-SPEC 180SX4P16K)
pins: 1, 2, 3

## PTM/3310C001/1M
designator P?
potentiometer, Bourns 3310C-001, 1M
footprint potmeter hor (BOURNS 3310C-001)
pins: 1, 2, 3

## PTM/3310C001/2K
designator P?
potentiometer, Bourns 3310C-001, 2K
footprint potmeter hor (BOURNS 3310C-001)
pins: 1, 2, 3

## PTM/3310C001/5K
designator P?
potentiometer, Bourns 3310C-001, 5K
footprint potmeter hor (BOURNS 3310C-001)
pins: 1, 2, 3

## PTM/3310C001/10K
designator P?
potentiometer, Bourns 3310C-001, 10K
footprint potmeter hor (BOURNS 3310C-001)
pins: 1, 2, 3

## PTM/3310C001/20K
designator P?
potentiometer, Bourns 3310C-001, 20K
footprint potmeter hor (BOURNS 3310C-001)
pins: 1, 2, 3

## PTM/3310C001/50K
designator P?
potentiometer, Bourns 3310C-001, 50K
footprint potmeter hor (BOURNS 3310C-001)
pins: 1, 2, 3

## PTM/3310C001/100K
designator P?
potentiometer, Bourns 3310C-001, 100K
footprint potmeter hor (BOURNS 3310C-001)
pins: 1, 2, 3

## PTM/3310C001/200K
designator P?
potentiometer, Bourns 3310C-001, 200K
footprint potmeter hor (BOURNS 3310C-001)
pins: 1, 2, 3

## PTM/3310C001/500K
designator P?
potentiometer, Bourns 3310C-001, 500K
footprint potmeter hor (BOURNS 3310C-001)
pins: 1, 2, 3

## PTM/3310H001/1M
designator P?
potentiometer, Bourns 3310H-001, 1M
footprint potmeter vert (BOURNS 3310H-001)
pins: 1, 2, 3, 4, 5, 6

## PTM/3310H001/10K
designator P?
potentiometer, Bourns 3310H-001, 10K
footprint potmeter vert (BOURNS 3310H-001)
pins: 1, 2, 3, 4, 5, 6

## PTM/3310H001/20K
designator P?
potentiometer, Bourns 3310H-001, 20K
footprint potmeter vert (BOURNS 3310H-001)
pins: 1, 2, 3, 4, 5, 6

## PTM/3310H001/100K
designator P?
potentiometer, Bourns 3310H-001, 100K
footprint potmeter vert (BOURNS 3310H-001)
pins: 1, 2, 3, 4, 5, 6

## PTMH1K
designator P?
potentiometer, horizontale instelling, 1K
footprint potmeter hor (BOURNS 91A1A-B28-Bxx)
pins: 1, 2, 3

## PTMH1M
designator P?
potentiometer, horizontale instelling, 1M
footprint potmeter hor (BOURNS 91A1A-B28-Bxx)
pins: 1, 2, 3

## PTMH2K
designator P?
potentiometer, horizontale instelling, 2K
footprint potmeter hor (BOURNS 91A1A-B28-Bxx)
pins: 1, 2, 3

## PTMH5K
designator P?
potentiometer, horizontale instelling, 5K
footprint potmeter hor (BOURNS 91A1A-B28-Bxx)
pins: 1, 2, 3

## PTMH10K
designator P?
potentiometer, horizontale instelling, 10K
footprint potmeter hor (BOURNS 91A1A-B28-Bxx)
pins: 1, 2, 3

## PTMH20K
designator P?
potentiometer, horizontale instelling, 20K
footprint potmeter hor (BOURNS 91A1A-B28-Bxx)
pins: 1, 2, 3

## PTMH25K
designator P?
potentiometer, horizontale instelling, 25K
footprint potmeter hor (BOURNS 91A1A-B28-Bxx)
pins: 1, 2, 3

## PTMH50K
designator P?
potentiometer, horizontale instelling, 50K
footprint potmeter hor (BOURNS 91A1A-B28-Bxx)
pins: 1, 2, 3

## PTMH100K
designator P?
potentiometer, horizontale instelling, 100K
footprint potmeter hor (BOURNS 91A1A-B28-Bxx)
pins: 1, 2, 3

## PTMH200K
designator P?
potentiometer, horizontale instelling, 200K
footprint potmeter hor (BOURNS 91A1A-B28-Bxx)
pins: 1, 2, 3

## PTMH250K
designator P?
potentiometer, horizontale instelling, 250K
footprint potmeter hor (BOURNS 91A1A-B28-Bxx)
pins: 1, 2, 3

## PTMH250R
designator P?
potentiometer, horizontale instelling, 250R
footprint potmeter hor (BOURNS 91A1A-B28-Bxx)
pins: 1, 2, 3

## PTMH500K
designator P?
potentiometer, horizontale instelling, 500K
footprint potmeter hor (BOURNS 91A1A-B28-Bxx)
pins: 1, 2, 3

## PTMH500R
designator P?
potentiometer, horizontale instelling, 500R
footprint potmeter hor (BOURNS 91A1A-B28-Bxx)
pins: 1, 2, 3

## TMH1T/1K
designator TM?
trimmer, horizontale instelling, 1 toer, 1K
footprint trimmer R/H/1T
pins: 1, 2, 3

## TMH1T/1M
designator TM?
trimmer, horizontale instelling, 1 toer, 1M
footprint trimmer R/H/1T
pins: 1, 2, 3

## TMH1T/2K
designator TM?
trimmer, horizontale instelling, 1 toer, 2K
footprint trimmer R/H/1T
pins: 1, 2, 3

## TMH1T/5K
designator TM?
trimmer, horizontale instelling, 1 toer, 5K
footprint trimmer R/H/1T
pins: 1, 2, 3

## TMH1T/10K
designator TM?
trimmer, horizontale instelling, 1 toer, 10K
footprint trimmer R/H/1T
pins: 1, 2, 3

## TMH1T/10R
designator TM?
trimmer, horizontale instelling, 1 toer, 10R
footprint trimmer R/H/1T
pins: 1, 2, 3

## TMH1T/20K
designator TM?
trimmer, horizontale instelling, 1 toer, 20K
footprint trimmer R/H/1T
pins: 1, 2, 3

## TMH1T/20R
designator TM?
trimmer, horizontale instelling, 1 toer, 20R
footprint trimmer R/H/1T
pins: 1, 2, 3

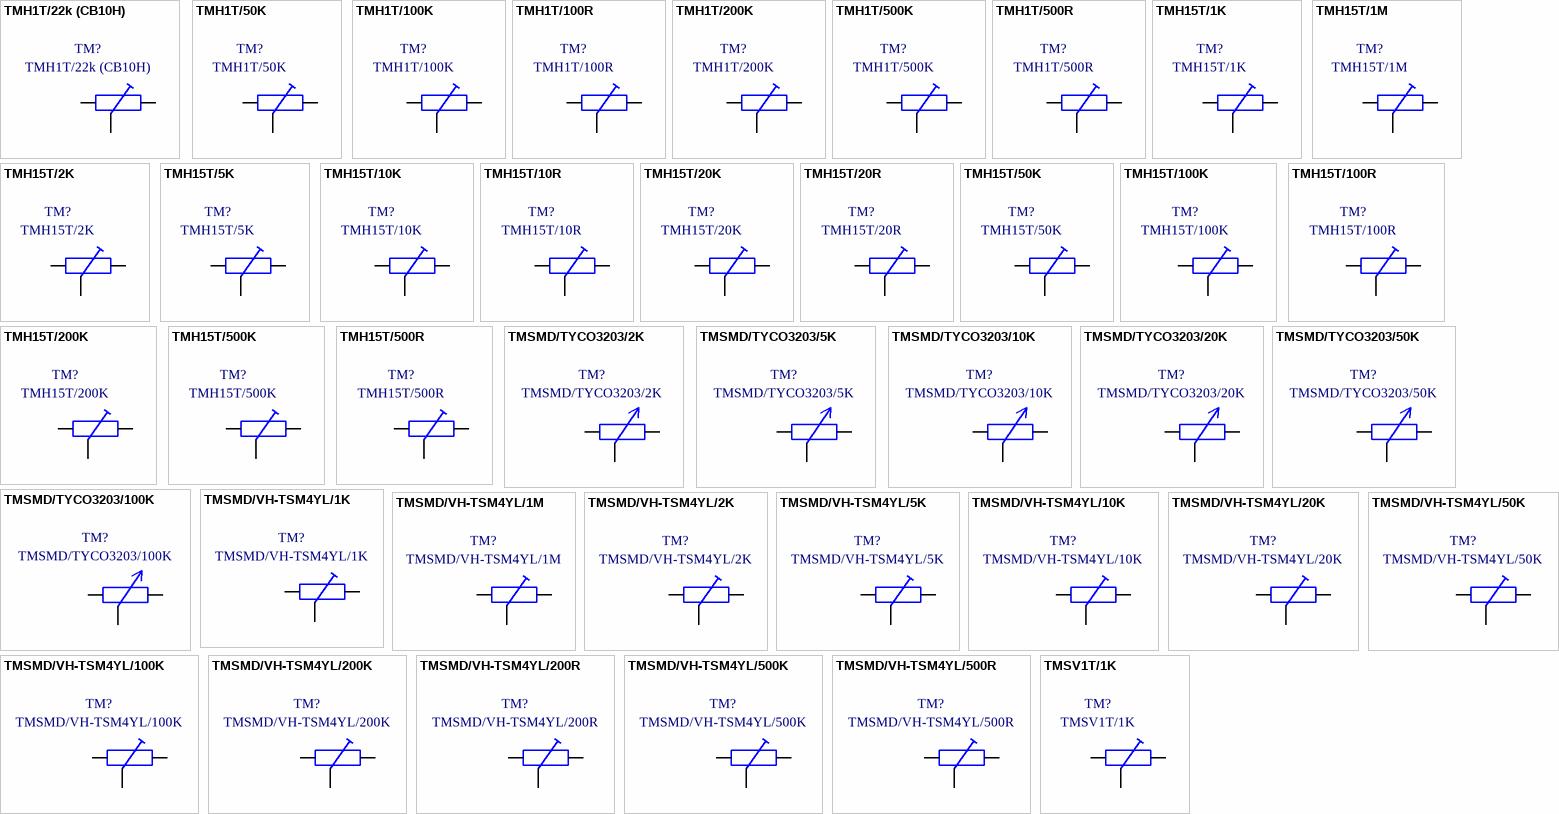
[diagram p96: symbols TMH1T/22k (CB10H) to TMSV1T/1K]

## TMH1T/22k (CB10H)
designator TM?
trimmer, Horizontale instelling, 1 toer, 22K
footprint trimmer R/H/1T(CB10LH) (TE Connectivity / Citec)
pins: 1, 2, 3

## TMH1T/50K
designator TM?
trimmer, horizontale instelling, 1 toer, 50K
footprint trimmer R/H/1T
pins: 1, 2, 3

## TMH1T/100K
designator TM?
trimmer, horizontale instelling, 1 toer, 100K
footprint trimmer R/H/1T
pins: 1, 2, 3

## TMH1T/100R
designator TM?
trimmer, horizontale instelling, 1 toer, 100R
footprint trimmer R/H/1T
pins: 1, 2, 3

## TMH1T/200K
designator TM?
trimmer, horizontale instelling, 1 toer, 200K
footprint trimmer R/H/1T
pins: 1, 2, 3

## TMH1T/500K
designator TM?
trimmer, horizontale instelling, 1 toer, 500K
footprint trimmer R/H/1T
pins: 1, 2, 3

## TMH1T/500R
designator TM?
trimmer, horizontale instelling, 1 toer, 500R
footprint trimmer R/H/1T
pins: 1, 2, 3

## TMH15T/1K
designator TM?
trimmer, horizontale instelling, 15 toeren, 1K
footprint trimmer R/H/15T
pins: 1, 2, 3

## TMH15T/1M
designator TM?
trimmer, horizontale instelling, 15 toeren, 1M
footprint trimmer R/H/15T
pins: 1, 2, 3

## TMH15T/2K
designator TM?
trimmer, horizontale instelling, 15 toeren, 2K
footprint trimmer R/H/15T
pins: 1, 2, 3

## TMH15T/5K
designator TM?
trimmer, horizontale instelling, 15 toeren, 5K
footprint trimmer R/H/15T
pins: 1, 2, 3

## TMH15T/10K
designator TM?
trimmer, horizontale instelling, 15 toeren, 10K
footprint trimmer R/H/15T
pins: 1, 2, 3

## TMH15T/10R
designator TM?
trimmer, horizontale instelling, 15 toeren, 10R
footprint trimmer R/H/15T
pins: 1, 2, 3

## TMH15T/20K
designator TM?
trimmer, horizontale instelling, 15 toeren, 20K
footprint trimmer R/H/15T
pins: 1, 2, 3

## TMH15T/20R
designator TM?
trimmer, horizontale instelling, 15 toeren, 20R
footprint trimmer R/H/15T
pins: 1, 2, 3

## TMH15T/50K
designator TM?
trimmer, horizontale instelling, 15 toeren, 50K
footprint trimmer R/H/15T
pins: 1, 2, 3

## TMH15T/100K
designator TM?
trimmer, horizontale instelling, 15 toeren, 100K
footprint trimmer R/H/15T
pins: 1, 2, 3

## TMH15T/100R
designator TM?
trimmer, horizontale instelling, 15 toeren, 100R
footprint trimmer R/H/15T
pins: 1, 2, 3

## TMH15T/200K
designator TM?
trimmer, horizontale instelling, 15 toeren, 200K
footprint trimmer R/H/15T
pins: 1, 2, 3

## TMH15T/500K
designator TM?
trimmer, horizontale instelling, 15 toeren, 500K
footprint trimmer R/H/15T
pins: 1, 2, 3

## TMH15T/500R
designator TM?
trimmer, horizontale instelling, 15 toeren, 500R
footprint trimmer R/H/15T
pins: 1, 2, 3

## TMSMD/TYCO3203/2K
designator TM?
smd trimmer, Tyco 3203, 2K
footprint smd trimmer (Tyco 3203)
pins: 1, 2, 3

## TMSMD/TYCO3203/5K
designator TM?
smd trimmer, Tyco 3203, 5K
footprint smd trimmer (Tyco 3203)
pins: 1, 2, 3

## TMSMD/TYCO3203/10K
designator TM?
smd trimmer, Tyco 3203, 10K
footprint smd trimmer (Tyco 3203)
pins: 1, 2, 3

## TMSMD/TYCO3203/20K
designator TM?
smd trimmer, Tyco 3203, 20K
footprint smd trimmer (Tyco 3203)
pins: 1, 2, 3

## TMSMD/TYCO3203/50K
designator TM?
smd trimmer, Tyco 3203, 50K
footprint smd trimmer (Tyco 3203)
pins: 1, 2, 3

## TMSMD/TYCO3203/100K
designator TM?
smd trimmer, Tyco 3203, 100K
footprint smd trimmer (Tyco 3203)
pins: 1, 2, 3

## TMSMD/VH-TSM4YL/1K
designator TM?
smd trimmer, Vishay TSM4YL, 1K
footprint smd trimmer (Vishay TSM4YL)
pins: 1, 2, 3

## TMSMD/VH-TSM4YL/1M
designator TM?
smd trimmer, Vishay TSM4YL, 1M
footprint smd trimmer (Vishay TSM4YL)
pins: 1, 2, 3

## TMSMD/VH-TSM4YL/2K
designator TM?
smd trimmer, Vishay TSM4YL, 2K
footprint smd trimmer (Vishay TSM4YL)
pins: 1, 2, 3

## TMSMD/VH-TSM4YL/5K
designator TM?
smd trimmer, Vishay TSM4YL, 5K
footprint smd trimmer (Vishay TSM4YL)
pins: 1, 2, 3

## TMSMD/VH-TSM4YL/10K
designator TM?
smd trimmer, Vishay TSM4YL, 10K
footprint smd trimmer (Vishay TSM4YL)
pins: 1, 2, 3

## TMSMD/VH-TSM4YL/20K
designator TM?
smd trimmer, Vishay TSM4YL, 20K
footprint smd trimmer (Vishay TSM4YL)
pins: 1, 2, 3

## TMSMD/VH-TSM4YL/50K
designator TM?
smd trimmer, Vishay TSM4YL, 50K
footprint smd trimmer (Vishay TSM4YL)
pins: 1, 2, 3

## TMSMD/VH-TSM4YL/100K
designator TM?
smd trimmer, Vishay TSM4YL, 100K
footprint smd trimmer (Vishay TSM4YL)
pins: 1, 2, 3

## TMSMD/VH-TSM4YL/200K
designator TM?
smd trimmer, Vishay TSM4YL, 200K
footprint smd trimmer (Vishay TSM4YL)
pins: 1, 2, 3

## TMSMD/VH-TSM4YL/200R
designator TM?
smd trimmer, Vishay TSM4YL, 200R
footprint smd trimmer (Vishay TSM4YL)
pins: 1, 2, 3

## TMSMD/VH-TSM4YL/500K
designator TM?
smd trimmer, Vishay TSM4YL, 500K
footprint smd trimmer (Vishay TSM4YL)
pins: 1, 2, 3

## TMSMD/VH-TSM4YL/500R
designator TM?
smd trimmer, Vishay TSM4YL, 500R
footprint smd trimmer (Vishay TSM4YL)
pins: 1, 2, 3

## TMSV1T/1K
designator TM?
trimmer, SMD, vertikale instelling, 1 toer, 1K
footprint trim R smd (Bourns 5x5mm)
pins: 1, 2, 3

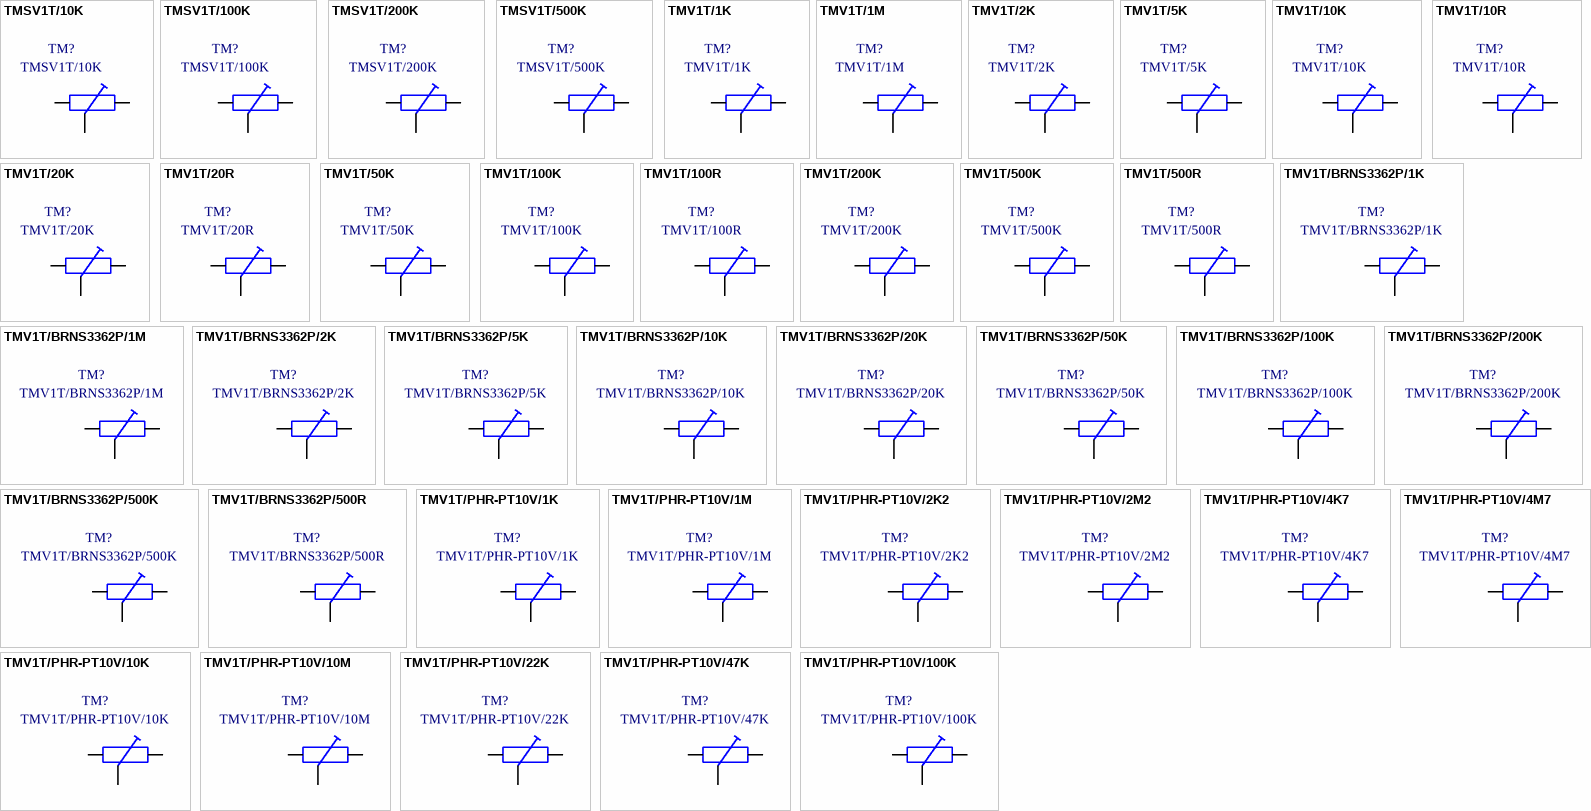
[diagram p97: symbols TMSV1T/10K to TMV1T/PHR-PT10V/100K]

## TMSV1T/10K
designator TM?
trimmer, SMD, vertikale instelling, 1 toer, 10K
footprint trim R smd (Bourns 5x5mm)
pins: 1, 2, 3

## TMSV1T/100K
designator TM?
trimmer, SMD, vertikale instelling, 1 toer, 100K
footprint trim R smd (Bourns 5x5mm)
pins: 1, 2, 3

## TMSV1T/200K
designator TM?
trimmer, SMD, vertikale instelling, 1 toer, 200K
footprint trim R smd (Bourns 5x5mm)
pins: 1, 2, 3

## TMSV1T/500K
designator TM?
trimmer, SMD, vertikale instelling, 1 toer, 500K
footprint trim R smd (Bourns 5x5mm)
pins: 1, 2, 3

## TMV1T/1K
designator TM?
trimmer, vertikale instelling, 1 toer, 1K
footprint trimmer R/V/1T
pins: 1, 2, 3

## TMV1T/1M
designator TM?
trimmer, vertikale instelling, 1 toer, 1M
footprint trimmer R/V/1T
pins: 1, 2, 3

## TMV1T/2K
designator TM?
trimmer, vertikale instelling, 1 toer, 2K
footprint trimmer R/V/1T
pins: 1, 2, 3

## TMV1T/5K
designator TM?
trimmer, vertikale instelling, 1 toer, 5K
footprint trimmer R/V/1T
pins: 1, 2, 3

## TMV1T/10K
designator TM?
trimmer, vertikale instelling, 1 toer, 10K
footprint trimmer R/V/1T
pins: 1, 2, 3

## TMV1T/10R
designator TM?
trimmer, vertikale instelling, 1 toer, 10R
footprint trimmer R/V/1T
pins: 1, 2, 3

## TMV1T/20K
designator TM?
trimmer, vertikale instelling, 1 toer, 20K
footprint trimmer R/V/1T
pins: 1, 2, 3

## TMV1T/20R
designator TM?
trimmer, vertikale instelling, 1 toer, 20R
footprint trimmer R/V/1T
pins: 1, 2, 3

## TMV1T/50K
designator TM?
trimmer, vertikale instelling, 1 toer, 50K
footprint trimmer R/V/1T
pins: 1, 2, 3

## TMV1T/100K
designator TM?
trimmer, vertikale instelling, 1 toer, 100K
footprint trimmer R/V/1T
pins: 1, 2, 3

## TMV1T/100R
designator TM?
trimmer, vertikale instelling, 1 toer, 100R
footprint trimmer R/V/1T
pins: 1, 2, 3

## TMV1T/200K
designator TM?
trimmer, vertikale instelling, 1 toer, 200K
footprint trimmer R/V/1T
pins: 1, 2, 3

## TMV1T/500K
designator TM?
trimmer, vertikale instelling, 1 toer, 500K
footprint trimmer R/V/1T
pins: 1, 2, 3

## TMV1T/500R
designator TM?
trimmer, vertikale instelling, 1 toer, 500R
footprint trimmer R/V/1T
pins: 1, 2, 3

## TMV1T/BRNS3362P/1K
designator TM?
trimmer, vertikale instelling, 1 toer, Bourns 3362P, 1K
footprint trimmer Bourns 3362P
pins: 1, 2, 3

## TMV1T/BRNS3362P/1M
designator TM?
trimmer, vertikale instelling, 1 toer, Bourns 3362P, 1M
footprint trimmer Bourns 3362P
pins: 1, 2, 3

## TMV1T/BRNS3362P/2K
designator TM?
trimmer, vertikale instelling, 1 toer, Bourns 3362P, 2K
footprint trimmer Bourns 3362P
pins: 1, 2, 3

## TMV1T/BRNS3362P/5K
designator TM?
trimmer, vertikale instelling, 1 toer, Bourns 3362P, 5K
footprint trimmer Bourns 3362P
pins: 1, 2, 3

## TMV1T/BRNS3362P/10K
designator TM?
trimmer, vertikale instelling, 1 toer, Bourns 3362P, 10K
footprint trimmer Bourns 3362P
pins: 1, 2, 3

## TMV1T/BRNS3362P/20K
designator TM?
trimmer, vertikale instelling, 1 toer, Bourns 3362P, 20K
footprint trimmer Bourns 3362P
pins: 1, 2, 3

## TMV1T/BRNS3362P/50K
designator TM?
trimmer, vertikale instelling, 1 toer, Bourns 3362P, 50K
footprint trimmer Bourns 3362P
pins: 1, 2, 3

## TMV1T/BRNS3362P/100K
designator TM?
trimmer, vertikale instelling, 1 toer, Bourns 3362P, 100K
footprint trimmer Bourns 3362P
pins: 1, 2, 3

## TMV1T/BRNS3362P/200K
designator TM?
trimmer, vertikale instelling, 1 toer, Bourns 3362P, 200K
footprint trimmer Bourns 3362P
pins: 1, 2, 3

## TMV1T/BRNS3362P/500K
designator TM?
trimmer, vertikale instelling, 1 toer, Bourns 3362P, 500K
footprint trimmer Bourns 3362P
pins: 1, 2, 3

## TMV1T/BRNS3362P/500R
designator TM?
trimmer, vertikale instelling, 1 toer, Bourns 3362P, 500R
footprint trimmer Bourns 3362P
pins: 1, 2, 3

## TMV1T/PHR-PT10V/1K
designator TM?
trimmer, vertikale instelling, Piher PT10V, 1K
footprint trimmer Piher  PT10V
pins: 1, 2, 3

## TMV1T/PHR-PT10V/1M
designator TM?
trimmer, vertikale instelling, Piher PT10V, 1M
footprint trimmer Piher  PT10V
pins: 1, 2, 3

## TMV1T/PHR-PT10V/2K2
designator TM?
trimmer, vertikale instelling, Piher PT10V, 2K2
footprint trimmer Piher  PT10V
pins: 1, 2, 3

## TMV1T/PHR-PT10V/2M2
designator TM?
trimmer, vertikale instelling, Piher PT10V, 2M2
footprint trimmer Piher  PT10V
pins: 1, 2, 3

## TMV1T/PHR-PT10V/4K7
designator TM?
trimmer, vertikale instelling, Piher PT10V, 4K7
footprint trimmer Piher  PT10V
pins: 1, 2, 3

## TMV1T/PHR-PT10V/4M7
designator TM?
trimmer, vertikale instelling, Piher PT10V, 4M7
footprint trimmer Piher  PT10V
pins: 1, 2, 3

## TMV1T/PHR-PT10V/10K
designator TM?
trimmer, vertikale instelling, Piher PT10V, 10K
footprint trimmer Piher  PT10V
pins: 1, 2, 3

## TMV1T/PHR-PT10V/10M
designator TM?
trimmer, vertikale instelling, Piher PT10V, 10M
footprint trimmer Piher  PT10V
pins: 1, 2, 3

## TMV1T/PHR-PT10V/22K
designator TM?
trimmer, vertikale instelling, Piher PT10V, 22K
footprint trimmer Piher  PT10V
pins: 1, 2, 3

## TMV1T/PHR-PT10V/47K
designator TM?
trimmer, vertikale instelling, Piher PT10V, 47K
footprint trimmer Piher  PT10V
pins: 1, 2, 3

## TMV1T/PHR-PT10V/100K
designator TM?
trimmer, vertikale instelling, Piher PT10V, 100K
footprint trimmer Piher  PT10V
pins: 1, 2, 3

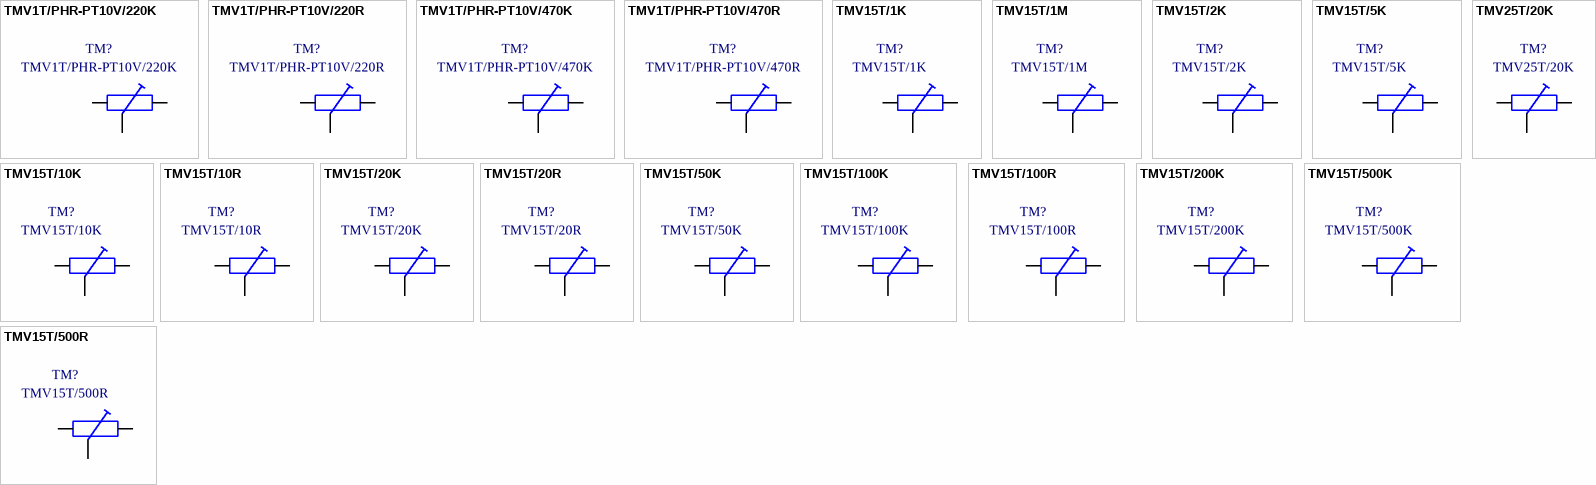
[diagram p98: symbols TMV1T/PHR-PT10V/220K to TMV25T/20K]

## TMV1T/PHR-PT10V/220K
designator TM?
trimmer, vertikale instelling, Piher PT10V, 220K
footprint trimmer Piher  PT10V
pins: 1, 2, 3

## TMV1T/PHR-PT10V/220R
designator TM?
trimmer, vertikale instelling, Piher PT10V, 220R
footprint trimmer Piher  PT10V
pins: 1, 2, 3

## TMV1T/PHR-PT10V/470K
designator TM?
trimmer, vertikale instelling, Piher PT10V, 470K
footprint trimmer Piher  PT10V
pins: 1, 2, 3

## TMV1T/PHR-PT10V/470R
designator TM?
trimmer, vertikale instelling, Piher PT10V, 470R
footprint trimmer Piher  PT10V
pins: 1, 2, 3

## TMV15T/1K
designator TM?
trimmer, vertikale instelling, 15 toeren, 1K
footprint trimmer R/V/15T
pins: 1, 2, 3

## TMV15T/1M
designator TM?
trimmer, vertikale instelling, 15 toeren, 1M
footprint trimmer R/V/15T
pins: 1, 2, 3

## TMV15T/2K
designator TM?
trimmer, vertikale instelling, 15 toeren, 2K
footprint trimmer R/V/15T
pins: 1, 2, 3

## TMV15T/5K
designator TM?
trimmer, vertikale instelling, 15 toeren, 5K
footprint trimmer R/V/15T
pins: 1, 2, 3

## TMV15T/10K
designator TM?
trimmer, vertikale instelling, 15 toeren, 10K
footprint trimmer R/V/15T
pins: 1, 2, 3

## TMV15T/10R
designator TM?
trimmer, vertikale instelling, 15 toeren, 10R
footprint trimmer R/V/15T
pins: 1, 2, 3

## TMV15T/20K
designator TM?
trimmer, vertikale instelling, 15 toeren, 20K
footprint trimmer R/V/15T
pins: 1, 2, 3

## TMV15T/20R
designator TM?
trimmer, vertikale instelling, 15 toeren, 20R
footprint trimmer R/V/15T
pins: 1, 2, 3

## TMV15T/50K
designator TM?
trimmer, vertikale instelling, 15 toeren, 50K
footprint trimmer R/V/15T
pins: 1, 2, 3

## TMV15T/100K
designator TM?
trimmer, vertikale instelling, 15 toeren, 100K
footprint trimmer R/V/15T
pins: 1, 2, 3

## TMV15T/100R
designator TM?
trimmer, vertikale instelling, 15 toeren, 100R
footprint trimmer R/V/15T
pins: 1, 2, 3

## TMV15T/200K
designator TM?
trimmer, vertikale instelling, 15 toeren, 200K
footprint trimmer R/V/15T
pins: 1, 2, 3

## TMV15T/500K
designator TM?
trimmer, vertikale instelling, 15 toeren, 500K
footprint trimmer R/V/15T
pins: 1, 2, 3

## TMV15T/500R
designator TM?
trimmer, vertikale instelling, 15 toeren, 500R
footprint trimmer R/V/15T
pins: 1, 2, 3

## TMV25T/20K
designator TM?
trimmer, vertikale instelling, 25 toeren, 20K
footprint trimmer R/V/1T (BOURNS 3299W)
pins: 1, 2, 3


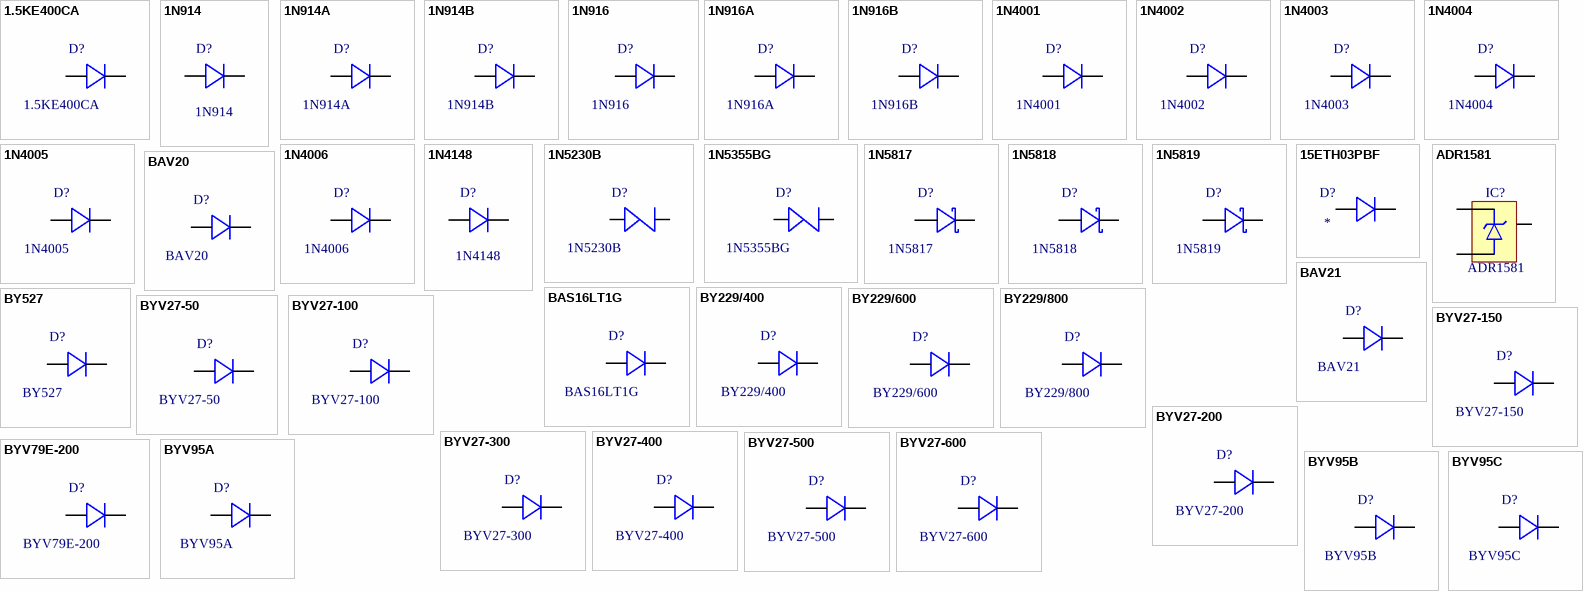
[diagram p99: symbols 1.5KE400CA to BYV95C]

## 1.5KE400CA
designator D?
Transil power diode; Part Number: 1.5KE400CA; Component Kind: Standard; Component Type: Standard; Designator: 1.5KE400CA; Footprint: DO-201; Library Reference: 1.5KE400CA; Pin Count: 2
footprint DO-201
pins: 1, 2

## 1N914
designator D?
snelle schakeldiode 200mA; Part Number: 1N914; Component Kind: Standard; Component Type: Standard; Designator: 1N914; Footprint: DO-35; Library Reference: 1N914; Pin Count: 2
footprint DO-35
pins: 1, 2

## 1N914A
designator D?
snelle schakeldiode 200mA; Part Number: 1N914A; Component Kind: Standard; Component Type: Standard; Designator: 1N914A; Footprint: DO-35; Library Reference: 1N914A; Pin Count: 2
footprint DO-35
pins: 1, 2

## 1N914B
designator D?
snelle schakeldiode 200mA; Part Number: 1N914B; Component Kind: Standard; Component Type: Standard; Designator: 1N914B; Footprint: DO-35; Library Reference: 1N914B; Pin Count: 2
footprint DO-35
pins: 1, 2

## 1N916
designator D?
snelle schakeldiode 200mA; Part Number: 1N916; Component Kind: Standard; Component Type: Standard; Designator: 1N916; Footprint: DO-35; Library Reference: 1N916; Pin Count: 2
footprint DO-35
pins: 1, 2

## 1N916A
designator D?
snelle schakeldiode 200mA; Part Number: 1N916A; Component Kind: Standard; Component Type: Standard; Designator: 1N916A; Footprint: DO-35; Library Reference: 1N916A; Pin Count: 2
footprint DO-35
pins: 1, 2

## 1N916B
designator D?
snelle schakeldiode 200mA; Part Number: 1N916B; Component Kind: Standard; Component Type: Standard; Designator: 1N916B; Footprint: DO-35; Library Reference: 1N916B; Pin Count: 2
footprint DO-35
pins: 1, 2

## 1N4001
designator D?
gelijkrichterdiode 50V/1A; Part Number: 1N4001; Component Kind: Standard; Component Type: Standard; Designator: 1N4001; Footprint: DO-41; Library Reference: 1N4001; Pin Count: 2
footprint DO-41
pins: 1, 2

## 1N4002
designator D?
gelijkrichterdiode 100V/1A; Part Number: 1N4002; Component Kind: Standard; Component Type: Standard; Designator: 1N4002; Footprint: DO-41; Library Reference: 1N4002; Pin Count: 2
footprint DO-41
pins: 1, 2

## 1N4003
designator D?
gelijkrichterdiode 200V/1A; Part Number: 1N4003; Component Kind: Standard; Component Type: Standard; Designator: 1N4003; Footprint: DO-41; Library Reference: 1N4003; Pin Count: 2
footprint DO-41
pins: 1, 2

## 1N4004
designator D?
gelijkrichterdiode 400V/1A; Part Number: 1N4004; Component Kind: Standard; Component Type: Standard; Designator: 1N4004; Footprint: DO-41; Library Reference: 1N4004; Pin Count: 2
footprint DO-41
pins: 1, 2

## 1N4005
designator D?
gelijkrichterdiode 600V/1A; Part Number: 1N4005; Component Kind: Standard; Component Type: Standard; Designator: 1N4005; Footprint: DO-41; Library Reference: 1N4005; Pin Count: 2
footprint DO-41
pins: 1, 2

## 1N4006
designator D?
gelijkrichterdiode 800V/1A; Part Number: 1N4006; Component Kind: Standard; Component Type: Standard; Designator: 1N4006; Footprint: DO-41; Library Reference: 1N4006; Pin Count: 2
footprint DO-41
pins: 1, 2

## 1N4148
designator D?
snelle schakeldiode 200mA; Part Number: 1N4148; Component Kind: Standard; Component Type: Standard; Designator: 1N4148; Footprint: DO-35; Library Reference: 1N4148; Pin Count: 2
footprint DO-35
pins: 1, 2

## 1N5230B
designator D?
zenerdiode 500mW/4V7; Part Number: 1N5230B; Component Kind: Standard; Component Type: Standard; Designator: 1N5230B; Footprint: DO-35; Library Reference: 1N5230B; Pin Count: 2
footprint DO-35
pins: 1, 2

## 1N5355BG
designator D?
zener diode; Part Number: 1N5355BG; Component Kind: Standard; Component Type: Standard; Designator: 1N5355BG; Footprint: Surmetic40/017AA-01; Library Reference: 1N5355BG; Pin Count: 2
footprint Surmetic40/017AA-01
pins: 1, 2

## 1N5817
designator D?
Schottky barrier rectifier diode; Part Number: 1N5817; Component Kind: Standard; Component Type: Standard; Designator: 1N5817; Footprint: DO-41; Library Reference: 1N5817; Pin Count: 2
footprint DO-41
pins: 1, 2

## 1N5818
designator D?
Schottky barrier rectifier diode; Part Number: 1N5818; Component Kind: Standard; Component Type: Standard; Designator: 1N5818; Footprint: DO-41; Library Reference: 1N5818; Pin Count: 2
footprint DO-41
pins: 1, 2

## 1N5819
designator D?
Schottky barrier rectifier diode; Part Number: 1N5819; Component Kind: Standard; Component Type: Standard; Designator: 1N5819; Footprint: DO-41; Library Reference: 1N5819; Pin Count: 2
footprint DO-41
pins: 1, 2

## 15ETH03PBF
designator D?
Ultrafast Rectifier
footprint TO-220 2pin
pins: 1, 2

## ADR1581
designator IC?
1.25 V Micropower, Precision Shunt  Voltage Reference
footprint smd SOT-23
pins: 1, 2, 3

## BAS16LT1G
designator D?
switching diode; Part Number: BAS16LT1G; Component Kind: Standard; Component Type: Standard; Designator: BAS16LT1G; Footprint: DO-35; Library Reference: BAS16LT1G; Pin Count: 2
footprint DO-35
pins: 1, 2

## BAV20
designator D?
signaaldiode 250mA; Part Number: BAV20; Component Kind: Standard; Component Type: Standard; Designator: BAV20; Footprint: DO-35; Library Reference: BAV20; Pin Count: 2
footprint DO-35
pins: 1, 2

## BAV21
designator D?
signaaldiode 250mA; Part Number: BAV21; Component Kind: Standard; Component Type: Standard; Designator: BAV21; Footprint: DO-35; Library Reference: BAV21; Pin Count: 2
footprint DO-35
pins: 1, 2

## BY229/400
designator D?
fast switching rectifier; Part Number: BY229/400; Component Kind: Standard; Component Type: Standard; Designator: BY229/400; Footprint: TO-220 2pin; Library Reference: BY229/400; Pin Count: 2
footprint TO-220 2pin
pins: 1, 2

## BY229/600
designator D?
fast switching rectifier; Part Number: BY229/600; Component Kind: Standard; Component Type: Standard; Designator: BY229/600; Footprint: TO-220 2pin; Library Reference: BY229/600; Pin Count: 2
footprint TO-220 2pin
pins: 1, 2

## BY229/800
designator D?
fast switching rectifier; Part Number: BY229/800; Component Kind: Standard; Component Type: Standard; Designator: BY229/800; Footprint: TO-220 2pin; Library Reference: BY229/800; Pin Count: 2
footprint TO-220 2pin
pins: 1, 2

## BY527
designator D?
Standard Avalanche Sinterglass Diode
footprint SOD-57
pins: 1, 2

## BYV27-50
designator D?
ultra fast low-loss controlled avalanche rectifier; Part Number: BYV27-50; Component Kind: Standard; Component Type: Standard; Designator: BYV27-50; Footprint: SOD-57; Library Reference: BYV27-50; Pin Count: 2
footprint SOD-57
pins: 1, 2

## BYV27-100
designator D?
ultra fast low-loss controlled avalanche rectifier; Part Number: BYV27-100; Component Kind: Standard; Component Type: Standard; Designator: BYV27-100; Footprint: SOD-57; Library Reference: BYV27-100; Pin Count: 2
footprint SOD-57
pins: 1, 2

## BYV27-150
designator D?
ultra fast low-loss controlled avalanche rectifier; Part Number: BYV27-150; Component Kind: Standard; Component Type: Standard; Designator: BYV27-150; Footprint: SOD-57; Library Reference: BYV27-150; Pin Count: 2
footprint SOD-57
pins: 1, 2

## BYV27-200
designator D?
ultra fast low-loss controlled avalanche rectifier; Part Number: BYV27-200; Component Kind: Standard; Component Type: Standard; Designator: BYV27-200; Footprint: SOD-57; Library Reference: BYV27-200; Pin Count: 2
footprint SOD-57
pins: 1, 2

## BYV27-300
designator D?
ultra fast low-loss controlled avalanche rectifier; Part Number: BYV27-300; Component Kind: Standard; Component Type: Standard; Designator: BYV27-300; Footprint: SOD-57; Library Reference: BYV27-300; Pin Count: 2
footprint SOD-57
pins: 1, 2

## BYV27-400
designator D?
ultra fast low-loss controlled avalanche rectifier; Part Number: BYV27-400; Component Kind: Standard; Component Type: Standard; Designator: BYV27-400; Footprint: SOD-57; Library Reference: BYV27-400; Pin Count: 2
footprint SOD-57
pins: 1, 2

## BYV27-500
designator D?
ultra fast low-loss controlled avalanche rectifier; Part Number: BYV27-500; Component Kind: Standard; Component Type: Standard; Designator: BYV27-500; Footprint: SOD-57; Library Reference: BYV27-500; Pin Count: 2
footprint SOD-57
pins: 1, 2

## BYV27-600
designator D?
ultra fast low-loss controlled avalanche rectifier; Part Number: BYV27-600; Component Kind: Standard; Component Type: Standard; Designator: BYV27-600; Footprint: SOD-57; Library Reference: BYV27-600; Pin Count: 2
footprint SOD-57
pins: 1, 2

## BYV79E-200
designator D?
ultra fast low-loss controlled avalanche rectifier
footprint TO-220 2pin
pins: 1, 2

## BYV95A
designator D?
fast soft-recovery controlled avalanche rectifier; Part Number: BYV95A; Component Kind: Standard; Component Type: Standard; Designator: BYV95A; Footprint: SOD-57; Library Reference: BYV95A; Pin Count: 2
footprint SOD-57
pins: 1, 2

## BYV95B
designator D?
fast soft-recovery controlled avalanche rectifier; Part Number: BYV95B; Component Kind: Standard; Component Type: Standard; Designator: BYV95B; Footprint: SOD-57; Library Reference: BYV95B; Pin Count: 2
footprint SOD-57
pins: 1, 2

## BYV95C
designator D?
fast soft-recovery controlled avalanche rectifier; Part Number: BYV95C; Component Kind: Standard; Component Type: Standard; Designator: BYV95C; Footprint: SOD-57; Library Reference: BYV95C; Pin Count: 2
footprint SOD-57
pins: 1, 2

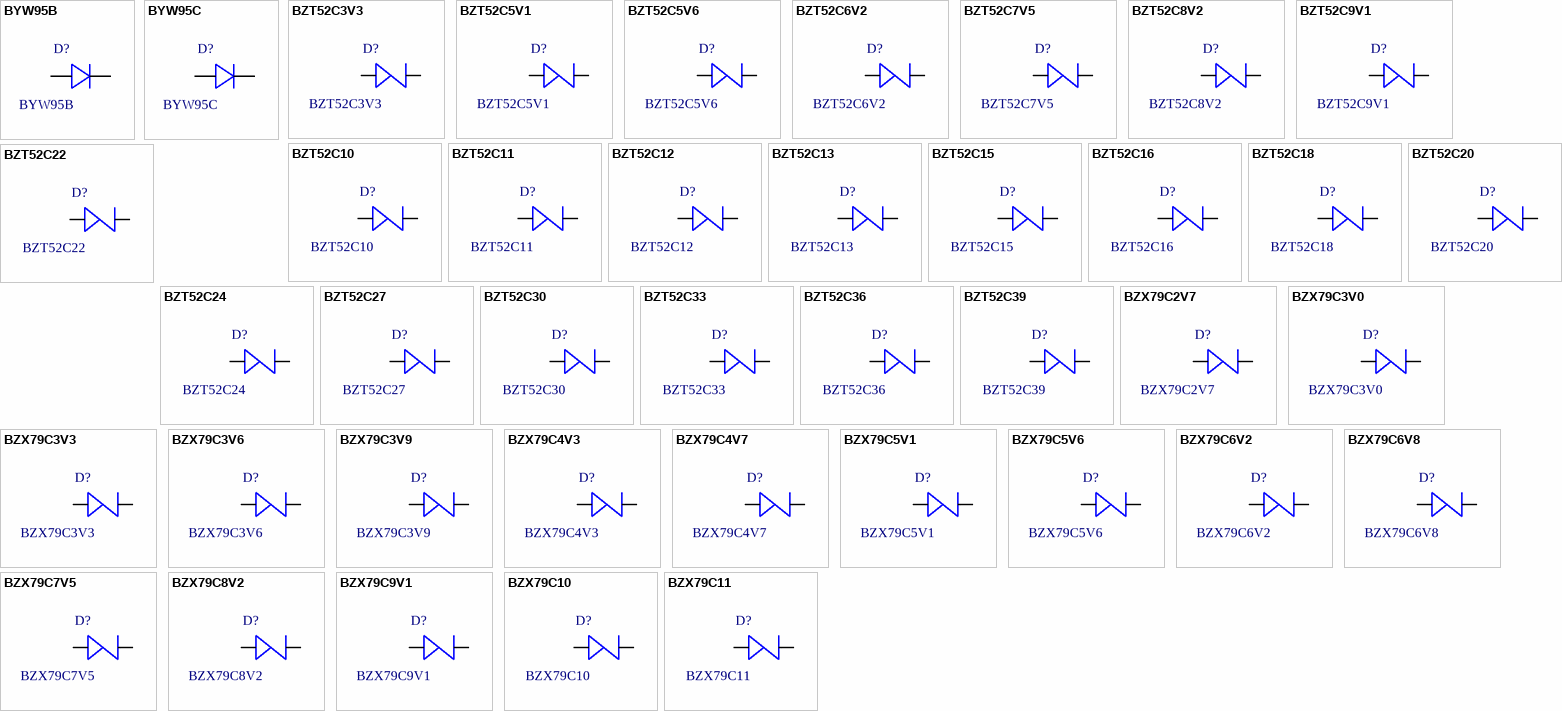
[diagram p100: symbols BYW95B to BZX79C11]

## BYW95B
designator D?
fast soft-recovery controlled avalanche rectifier; Part Number: BYW95B; Component Kind: Standard; Component Type: Standard; Designator: BYW95B; Footprint: SOD-64; Library Reference: BYW95B; Pin Count: 2
footprint SOD-64
pins: 1, 2

## BYW95C
designator D?
fast soft-recovery controlled avalanche rectifier; Part Number: BYW95C; Component Kind: Standard; Component Type: Standard; Designator: BYW95C; Footprint: SOD-64; Library Reference: BYW95C; Pin Count: 2
footprint SOD-64
pins: 1, 2

## BZT52C3V3
designator D?
zenerdiode smd 400mW; Part Number: BZT52C3V3; Component Kind: Standard; Component Type: Standard; Designator: BZT52C3V3; Footprint: smd SOD-123; Library Reference: BZT52C3V3; Pin Count: 2
footprint smd SOD-123
pins: 1, 2

## BZT52C5V1
designator D?
zenerdiode smd 400mW; Part Number: BZT52C5V1; Component Kind: Standard; Component Type: Standard; Designator: BZT52C5V1; Footprint: smd SOD-123; Library Reference: BZT52C5V1; Pin Count: 2
footprint smd SOD-123
pins: 1, 2

## BZT52C5V6
designator D?
zenerdiode smd 400mW; Part Number: BZT52C5V6; Component Kind: Standard; Component Type: Standard; Designator: BZT52C5V6; Footprint: smd SOD-123; Library Reference: BZT52C5V6; Pin Count: 2
footprint smd SOD-123
pins: 1, 2

## BZT52C6V2
designator D?
zenerdiode smd 400mW; Part Number: BZT52C6V2; Component Kind: Standard; Component Type: Standard; Designator: BZT52C6V2; Footprint: smd SOD-123; Library Reference: BZT52C6V2; Pin Count: 2
footprint smd SOD-123
pins: 1, 2

## BZT52C7V5
designator D?
zenerdiode smd 400mW; Part Number: BZT52C7V5; Component Kind: Standard; Component Type: Standard; Designator: BZT52C7V5; Footprint: smd SOD-123; Library Reference: BZT52C7V5; Pin Count: 2
footprint smd SOD-123
pins: 1, 2

## BZT52C8V2
designator D?
zenerdiode smd 400mW; Part Number: BZT52C8V2; Component Kind: Standard; Component Type: Standard; Designator: BZT52C8V2; Footprint: smd SOD-123; Library Reference: BZT52C8V2; Pin Count: 2
footprint smd SOD-123
pins: 1, 2

## BZT52C9V1
designator D?
zenerdiode smd 400mW; Part Number: BZT52C9V1; Component Kind: Standard; Component Type: Standard; Designator: BZT52C9V1; Footprint: smd SOD-123; Library Reference: BZT52C9V1; Pin Count: 2
footprint smd SOD-123
pins: 1, 2

## BZT52C10
designator D?
zenerdiode smd 400mW; Part Number: BZT52C10; Component Kind: Standard; Component Type: Standard; Designator: BZT52C10; Footprint: smd SOD-123; Library Reference: BZT52C10; Pin Count: 2
footprint smd SOD-123
pins: 1, 2

## BZT52C11
designator D?
zenerdiode smd 400mW; Part Number: BZT52C11; Component Kind: Standard; Component Type: Standard; Designator: BZT52C11; Footprint: smd SOD-123; Library Reference: BZT52C11; Pin Count: 2
footprint smd SOD-123
pins: 1, 2

## BZT52C12
designator D?
zenerdiode smd 400mW; Part Number: BZT52C12; Component Kind: Standard; Component Type: Standard; Designator: BZT52C12; Footprint: smd SOD-123; Library Reference: BZT52C12; Pin Count: 2
footprint smd SOD-123
pins: 1, 2

## BZT52C13
designator D?
zenerdiode smd 400mW; Part Number: BZT52C13; Component Kind: Standard; Component Type: Standard; Designator: BZT52C13; Footprint: smd SOD-123; Library Reference: BZT52C13; Pin Count: 2
footprint smd SOD-123
pins: 1, 2

## BZT52C15
designator D?
zenerdiode smd 400mW; Part Number: BZT52C15; Component Kind: Standard; Component Type: Standard; Designator: BZT52C15; Footprint: smd SOD-123; Library Reference: BZT52C15; Pin Count: 2
footprint smd SOD-123
pins: 1, 2

## BZT52C16
designator D?
zenerdiode smd 400mW; Part Number: BZT52C16; Component Kind: Standard; Component Type: Standard; Designator: BZT52C16; Footprint: smd SOD-123; Library Reference: BZT52C16; Pin Count: 2
footprint smd SOD-123
pins: 1, 2

## BZT52C18
designator D?
zenerdiode smd 400mW; Part Number: BZT52C18; Component Kind: Standard; Component Type: Standard; Designator: BZT52C18; Footprint: smd SOD-123; Library Reference: BZT52C18; Pin Count: 2
footprint smd SOD-123
pins: 1, 2

## BZT52C20
designator D?
zenerdiode smd 400mW; Part Number: BZT52C20; Component Kind: Standard; Component Type: Standard; Designator: BZT52C20; Footprint: smd SOD-123; Library Reference: BZT52C20; Pin Count: 2
footprint smd SOD-123
pins: 1, 2